# Altium schematic symbol library ICs_Control.SchLib: 37 symbols (part 1 of 6)
Pins are listed as number, name and electrical type; pins without a type are passive.

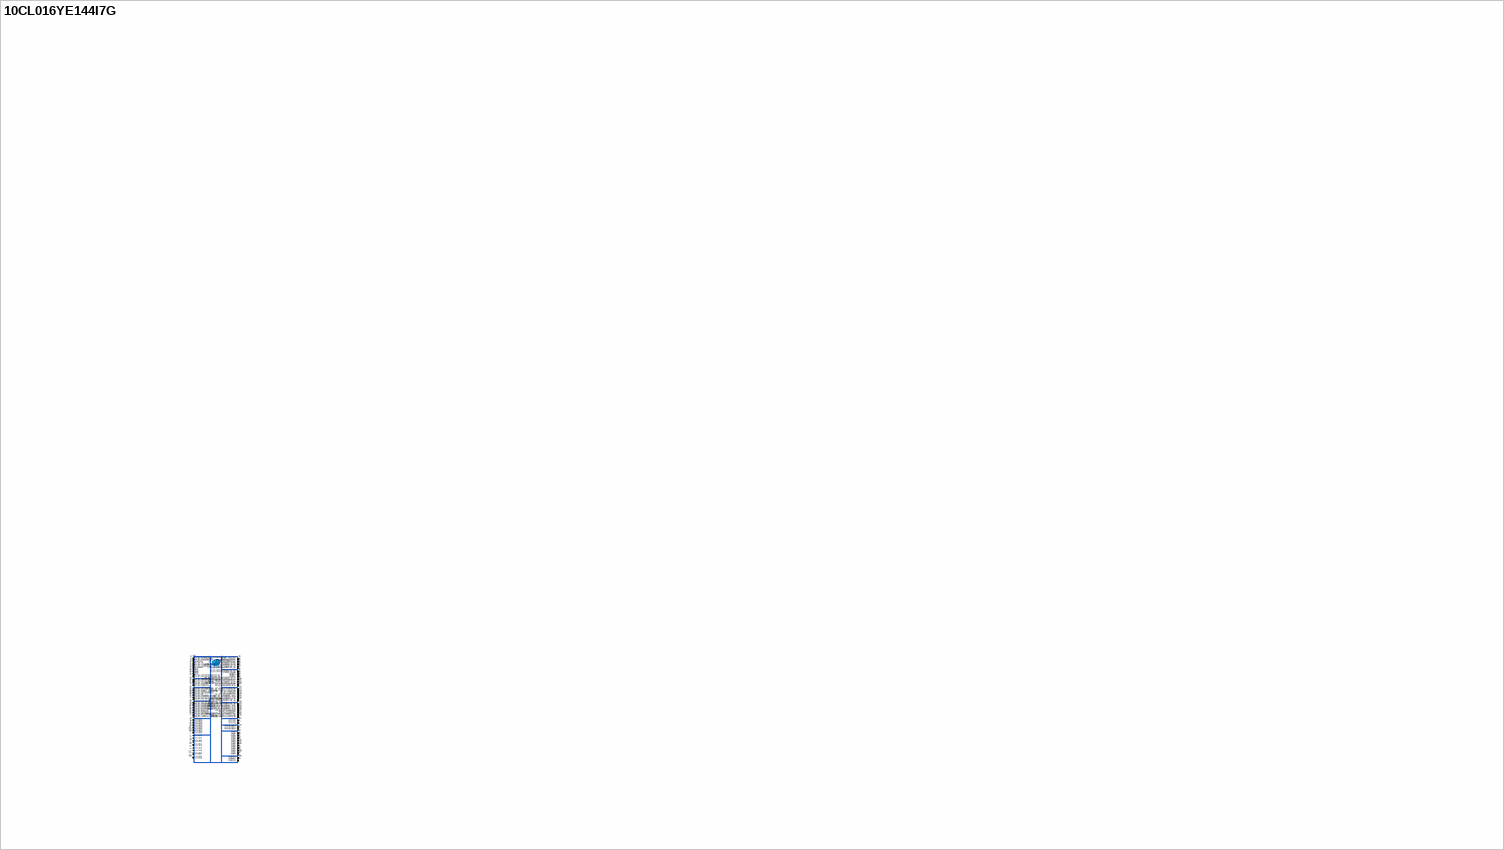
[diagram p0: symbol 10CL016YE144I7G]

## 10CL016YE144I7G
designator DD?
Cyclone 10 LP FPGA, 15408 LEs, 88 I/O (22 Diff. Pairs); Manufacturer: Intel/Altera; ItemType: IC; Alternative1: 10CL016YE144C8G; PartNumber: 10CL016YE144I7G; Package: LQFP144; ItemSubType: FPGA; Mounting: SMD; AltManufacturer1: Intel/Altera
footprint LQFP144_10CL016 (LQFP-144, 144-Leads, Body 20.00x20.00mm, Pitch 0.50mm, Thermal Pad 6.7x6.7mm)
pins: 1 VCCD_PLL3 (power), 2 GNDA3, 3 VCCA3 (power), 4 GND, 5 VCCINT (power), 6 B1_IO_6/DATA1/ASDO/DIFFIO_L4n (io), 7 B1_IO_7/VREFB1N0 (io), 8 B1_IO_8/FLASH_nCE/nCSO/DIFFIO_L6p (io), 9 nSTATUS (out), 10 B1_IO_10 (io), 11 B1_IO_11/VREFB1N1 (io), 12 B1_IO_12/DCLK (io), 13 B1_IO_13/DATA0 (io), 14 nCONFIG (in), 15 TDI (in), 16 TCK (in), 17 VCCIO1 (power), 18 TMS (in), 19 GND, 20 TDO (out), 21 nCE (in), 22 B1_IO_22/CLK0/DIFFCLK_0p (io), 23 B1_IO_23/CLK1/DIFFCLK_0n (io), 24 B2_IO_24/CLK2/DIFFCLK_1p (io), 25 B2_IO_25/CLK3/DIFFCLK_1n (io), 26 VCCIO2 (power), 27 GND, 28 B2_IO_28/VREFB2N0 (io), 29 VCCINT (power), 30 GND, 31 B2_IO_31/VREFB2N1 (io), 32 B2_IO_32/RUP1 (io), 33 B2_IO_33/RDN1 (io), 34 VCCINT (power), 35 VCCA1 (power), 36 GNDA1, 37 VCCD_PLL1 (power), 38 VCCINT (power), 39 B3_IO_39/VREFB3N1 (io), 40 VCCIO3 (power), 41 GND, 42 B3_IO_42/CDPCLK2 (io), 43 B3_IO_43/PLL1_CLKOUTp (io), 44 B3_IO_44/PLL1_CLKOUTn (io), 45 VCCINT (power), 46 B3_IO_46/VREFB3N0 (io), 47 VCCIO3 (power), 48 GND, 49 B3_IO_49 (io), 50 B3_IO_50/DIFFIO_B18p (io), 51 B3_IO_51/DIFFIO_B18n (io), 52 B3_IO_52/CLK15/DIFFCLK_6p (io), 53 B3_IO_53/CLK14/DIFFCLK_6n (io), 54 B4_IO_54/CLK13/DIFFCLK_7p (io), 55 B4_IO_55/CLK12/DIFFCLK_7n (io), 56 VCCIO4 (power), 57 GND, 58 B4_IO_58/DIFFIO_B21p (io), 59 B4_IO_59/DIFFIO_B22p (io), 60 B4_IO_60/DIFFIO_B22n (io), 61 B4_IO_61/DIFFIO_B23p (io), 62 VCCIO4 (power), 63 GND, 64 GND, 65 B4_IO_65/VREFB4N1 (io), 66 B4_IO_66/RUP2 (io), 67 B4_IO_67/RDN2 (io), 68 B4_IO_68/DIFFIO_B29n (io), 69 B4_IO_69/VREFB4N0 (io), 70 VCCINT (power), 71 B4_IO_71/PLL4_CLKOUTp (io), 72 B4_IO_72/PLL4_CLKOUTn (io), 73 VCCD_PLL4 (power), 74 GNDA4, 75 VCCA4 (power), 76 B5_IO_76/RUP3 (io), 77 B5_IO_77/RDN3 (io), 78 VCCINT (power), 79 GND, 80 B5_IO_80/VREFB5N1 (io), 81 VCCIO5 (power), 82 GND, 83 B5_IO_83/VREFB5N0 (io), 84 VCCINT (power), 85 B5_IO_85/DIFFIO_R22p (io), 86 B5_IO_86/DEV_OE/DIFFIO_R21n (io), 87 B5_IO_87/DEV_CLRn/DIFFIO_R21p (io), 88 B5_IO_88/CLK7/DIFFCLK_3n (io), 89 B5_IO_89/CLK6/DIFFCLK_3p (io), 90 B6_IO_90/CLK5/DIFFCLK_2n (io), 91 B6_IO_91/CLK4/DIFFCLK_2p (io), 92 CONF_DONE (out), 93 VCCIO6 (power), 94 MSEL0 (in), 95 GND, 96 MSEL1 (in), 97 MSEL2 (in), 98 B6_IO_98/INIT_DONE/DIFFIO_R17n (io), 99 B6_IO_99/CRC_ERROR/DIFFIO_R17p (io), 100 B6_IO_100/VREFB6N1 (io), 101 B6_IO_101/nCEO/DIFFIO_R16n (io), 102 VCCINT (power), 103 B6_IO_103/CLKUSR/DIFFIO_R16p (io), 104 GND, 105 B6_IO_105/VREFB6N0 (io), 106 B6_IO_106/DIFFIO_R2n (io), 107 VCCA2 (power), 108 GNDA2, 109 VCCD_PLL2 (power), 110 GND, 111 B7_IO_111/VREFB7N0 (io), 112 B7_IO_112/PLL2_CLKOUTn (io), 113 B7_IO_113/PLL2_CLKOUTp (io), 114 B7_IO_114/RUP4 (io), 115 B7_IO_115/RDN4 (io), 116 VCCINT (power), 117 VCCIO7 (power), 118 GND, 119 B7_IO_119/VREFB7N1 (io), 120 B7_IO_120/DIFFIO_T23n (io), 121 B7_IO_121/DIFFIO_T21p (io), 122 VCCIO7 (power), 123 GND, 124 VCCINT (power), 125 B7_IO_125/DIFFIO_T17p (io), 126 B7_IO_126/CLK8/DIFFCLK_5n (io), 127 B7_IO_127/CLK9/DIFFCLK_5p (io), 128 B8_IO_128/CLK10/DIFFCLK_4n (io), 129 B8_IO_129/CLK11/DIFFCLK_4p (io), 130 VCCIO8 (power), 131 GND, 132 B8_IO_132/DATA2/DIFFIO_T12n (io), 133 B8_IO_133/DATA3/DIFFIO_T12p (io), 134 B8_IO_134/DIFFIO_T11n (io), 135 B8_IO_135/DATA4/DIFFIO_T11p (io), 136 B8_IO_136/VREFB8N0 (io), 137 B8_IO_137/DATA5 (io), 138 VCCINT (power), 139 VCCIO8 (power), 140 GND, 141 B8_IO_141/VREFB8N1 (io), 142 B8_IO_142/CDPCLK7/DIFFIO_T2p (io), 143 B8_IO_143/PLL3_CLKOUTn (io), 144 B8_IO_144/PLL3_CLKOUTp (io), EP GND
text: BANK1; BANK5; CYCLONE 10 LP; BANK6; BANK2; BANK3; BANK7; BANK4; BANK8

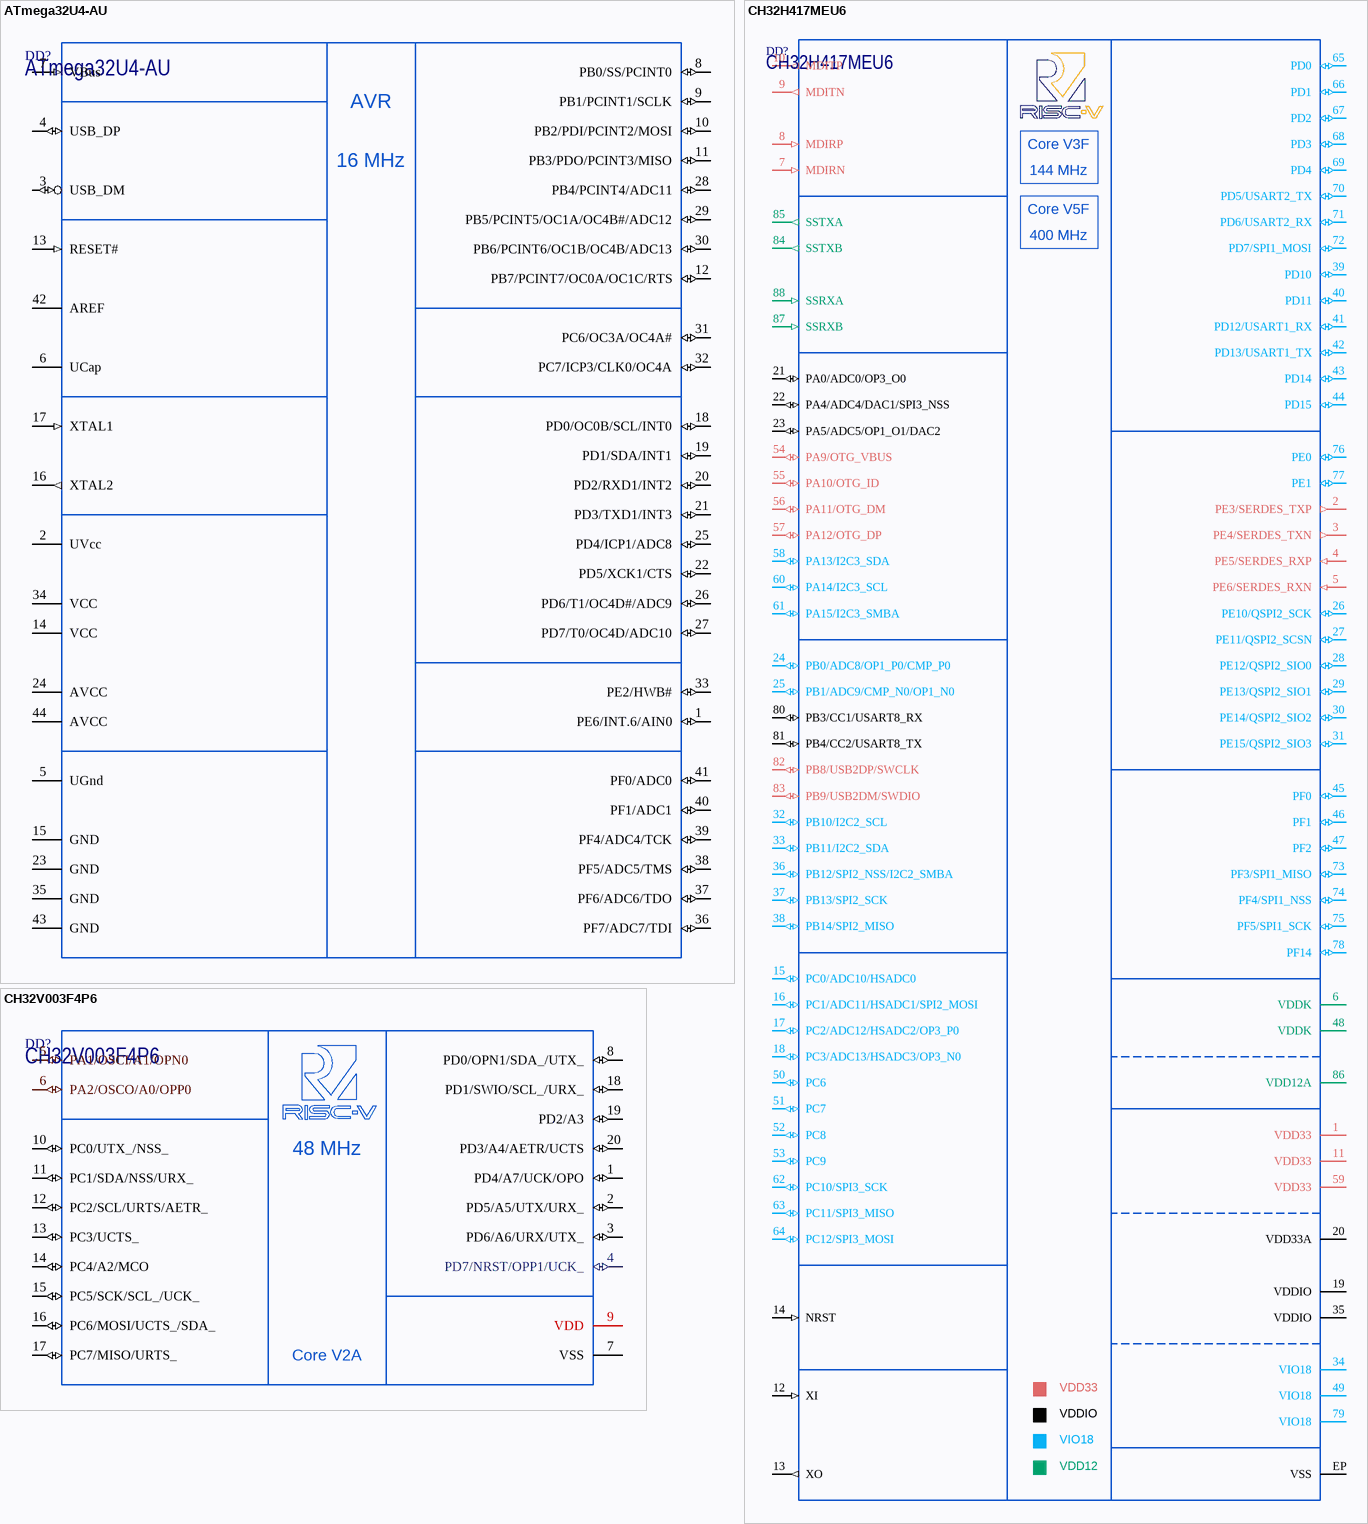
[diagram p1: symbols ATmega32U4-AU to CH32V003F4P6]

## ATmega32U4-AU
designator DD?
8-bit Microcontroller with 16/32K bytes of ISP Flash and USB Controller; Manufacturer: MicroChip; ItemType: IC; ItemSubType: MCU; Package: TQFP-44; PartNumber: ATmega32U4-AU; Mounting: SMD
footprint TQFP44_MEGA32U4 (Atmel TQFP44 package with 0.8mm pitch)
pins: 1 PE6/INT.6/AIN0 (io), 2 UVcc (power), 3 USB_DM (io), 4 USB_DP (io), 5 UGnd, 6 UCap, 7 VBus (in), 8 PB0/SS/PCINT0 (io), 9 PB1/PCINT1/SCLK (io), 10 PB2/PDI/PCINT2/MOSI (io), 11 PB3/PDO/PCINT3/MISO (io), 12 PB7/PCINT7/OC0A/OC1C/RTS (io), 13 RESET# (in), 14 VCC (power), 15 GND, 16 XTAL2 (out), 17 XTAL1 (in), 18 PD0/OC0B/SCL/INT0 (io), 19 PD1/SDA/INT1 (io), 20 PD2/RXD1/INT2 (io), 21 PD3/TXD1/INT3 (io), 22 PD5/XCK1/CTS (io), 23 GND, 24 AVCC (power), 25 PD4/ICP1/ADC8 (io), 26 PD6/T1/OC4D#/ADC9 (io), 27 PD7/T0/OC4D/ADC10 (io), 28 PB4/PCINT4/ADC11 (io), 29 PB5/PCINT5/OC1A/OC4B#/ADC12 (io), 30 PB6/PCINT6/OC1B/OC4B/ADC13 (io), 31 PC6/OC3A/OC4A# (io), 32 PC7/ICP3/CLK0/OC4A (io), 33 PE2/HWB# (io), 34 VCC (power), 35 GND, 36 PF7/ADC7/TDI (io), 37 PF6/ADC6/TDO (io), 38 PF5/ADC5/TMS (io), 39 PF4/ADC4/TCK (io), 40 PF1/ADC1 (io), 41 PF0/ADC0 (io), 42 AREF, 43 GND, 44 AVCC (power)
text: AVR; 16 MHz

## CH32H417MEU6
designator DD?
RISC-V Dual Core MCU 400/144MHz with 960KB flash, 896KB RAM; Manufacturer: WinChipHead; ItemType: IC; Package: QFN-88; PartNumber: CH32H417MEU6; ItemSubType: MCU; Mounting: SMD
footprint QFN88_WCH (QFN88, 10x10mm with 0.4mm pitch)
pins: 1 VDD33 (power), 2 PE3/SERDES_TXP (out), 3 PE4/SERDES_TXN (out), 4 PE5/SERDES_RXP (in), 5 PE6/SERDES_RXN (in), 6 VDDK (power), 7 MDIRN (in), 8 MDIRP (in), 9 MDITN (out), 10 MDITP (out), 11 VDD33 (power), 12 XI (in), 13 XO (out), 14 NRST (in), 15 PC0/ADC10/HSADC0 (io), 16 PC1/ADC11/HSADC1/SPI2_MOSI (io), 17 PC2/ADC12/HSADC2/OP3_P0 (io), 18 PC3/ADC13/HSADC3/OP3_N0 (io), 19 VDDIO (power), 20 VDD33A (power), 21 PA0/ADC0/OP3_O0 (io), 22 PA4/ADC4/DAC1/SPI3_NSS (io), 23 PA5/ADC5/OP1_O1/DAC2 (io), 24 PB0/ADC8/OP1_P0/CMP_P0 (io), 25 PB1/ADC9/CMP_N0/OP1_N0 (io), 26 PE10/QSPI2_SCK (io), 27 PE11/QSPI2_SCSN (io), 28 PE12/QSPI2_SIO0 (io), 29 PE13/QSPI2_SIO1 (io), 30 PE14/QSPI2_SIO2 (io), 31 PE15/QSPI2_SIO3 (io), 32 PB10/I2C2_SCL (io), 33 PB11/I2C2_SDA (io), 34 VIO18 (power), 35 VDDIO (power), 36 PB12/SPI2_NSS/I2C2_SMBA (io), 37 PB13/SPI2_SCK (io), 38 PB14/SPI2_MISO (io), 39 PD10 (io), 40 PD11 (io), 41 PD12/USART1_RX (io), 42 PD13/USART1_TX (io), 43 PD14 (io), 44 PD15 (io), 45 PF0 (io), 46 PF1 (io), 47 PF2 (io), 48 VDDK (power), 49 VIO18 (power), 50 PC6 (io), 51 PC7 (io), 52 PC8 (io), 53 PC9 (io), 54 PA9/OTG_VBUS (io), 55 PA10/OTG_ID (io), 56 PA11/OTG_DM (io), 57 PA12/OTG_DP (io), 58 PA13/I2C3_SDA (io), 59 VDD33 (power), 60 PA14/I2C3_SCL (io), 61 PA15/I2C3_SMBA (io), 62 PC10/SPI3_SCK (io), 63 PC11/SPI3_MISO (io), 64 PC12/SPI3_MOSI (io), 65 PD0 (io), 66 PD1 (io), 67 PD2 (io), 68 PD3 (io), 69 PD4 (io), 70 PD5/USART2_TX (io), 71 PD6/USART2_RX (io), 72 PD7/SPI1_MOSI (io), 73 PF3/SPI1_MISO (io), 74 PF4/SPI1_NSS (io), 75 PF5/SPI1_SCK (io), 76 PE0 (io), 77 PE1 (io), 78 PF14 (io), 79 VIO18 (power), 80 PB3/CC1/USART8_RX (io), 81 PB4/CC2/USART8_TX (io), 82 PB8/USB2DP/SWCLK (io), 83 PB9/USB2DM/SWDIO (io), 84 SSTXB (out), 85 SSTXA (out), 86 VDD12A (power), 87 SSRXB (in), 88 SSRXA (in), EP VSS
text: Core V3F; 144 MHz; Core V5F; 400 MHz; VDD12

## CH32V003F4P6
designator DD?
RISC-V MCU 48MHz with 16KB flash, 2KB RAM; Manufacturer: WinChipHead; ItemType: IC; Package: TSSOP-20; Marking: CH32V003; PartNumber: CH32V003F4P6; ItemtSubType: MCU; Mounting: SMD
footprint TSSOP20_WCH (TSSOP, 20-Leads, Body 6.50x4.40mm, Pitch 0.65mm)
pins: 1 PD4/A7/UCK/OPO (io), 2 PD5/A5/UTX/URX_ (io), 3 PD6/A6/URX/UTX_ (io), 4 PD7/NRST/OPP1/UCK_ (io), 5 PA1/OSCI/A1/OPN0 (io), 6 PA2/OSCO/A0/OPP0 (io), 7 VSS, 8 PD0/OPN1/SDA_/UTX_ (io), 9 VDD (power), 10 PC0/UTX_/NSS_ (io), 11 PC1/SDA/NSS/URX_ (io), 12 PC2/SCL/URTS/AETR_ (io), 13 PC3/UCTS_ (io), 14 PC4/A2/MCO (io), 15 PC5/SCK/SCL_/UCK_ (io), 16 PC6/MOSI/UCTS_/SDA_ (io), 17 PC7/MISO/URTS_ (io), 18 PD1/SWIO/SCL_/URX_ (io), 19 PD2/A3 (io), 20 PD3/A4/AETR/UCTS (io)
text: 48 MHz; Core V2A

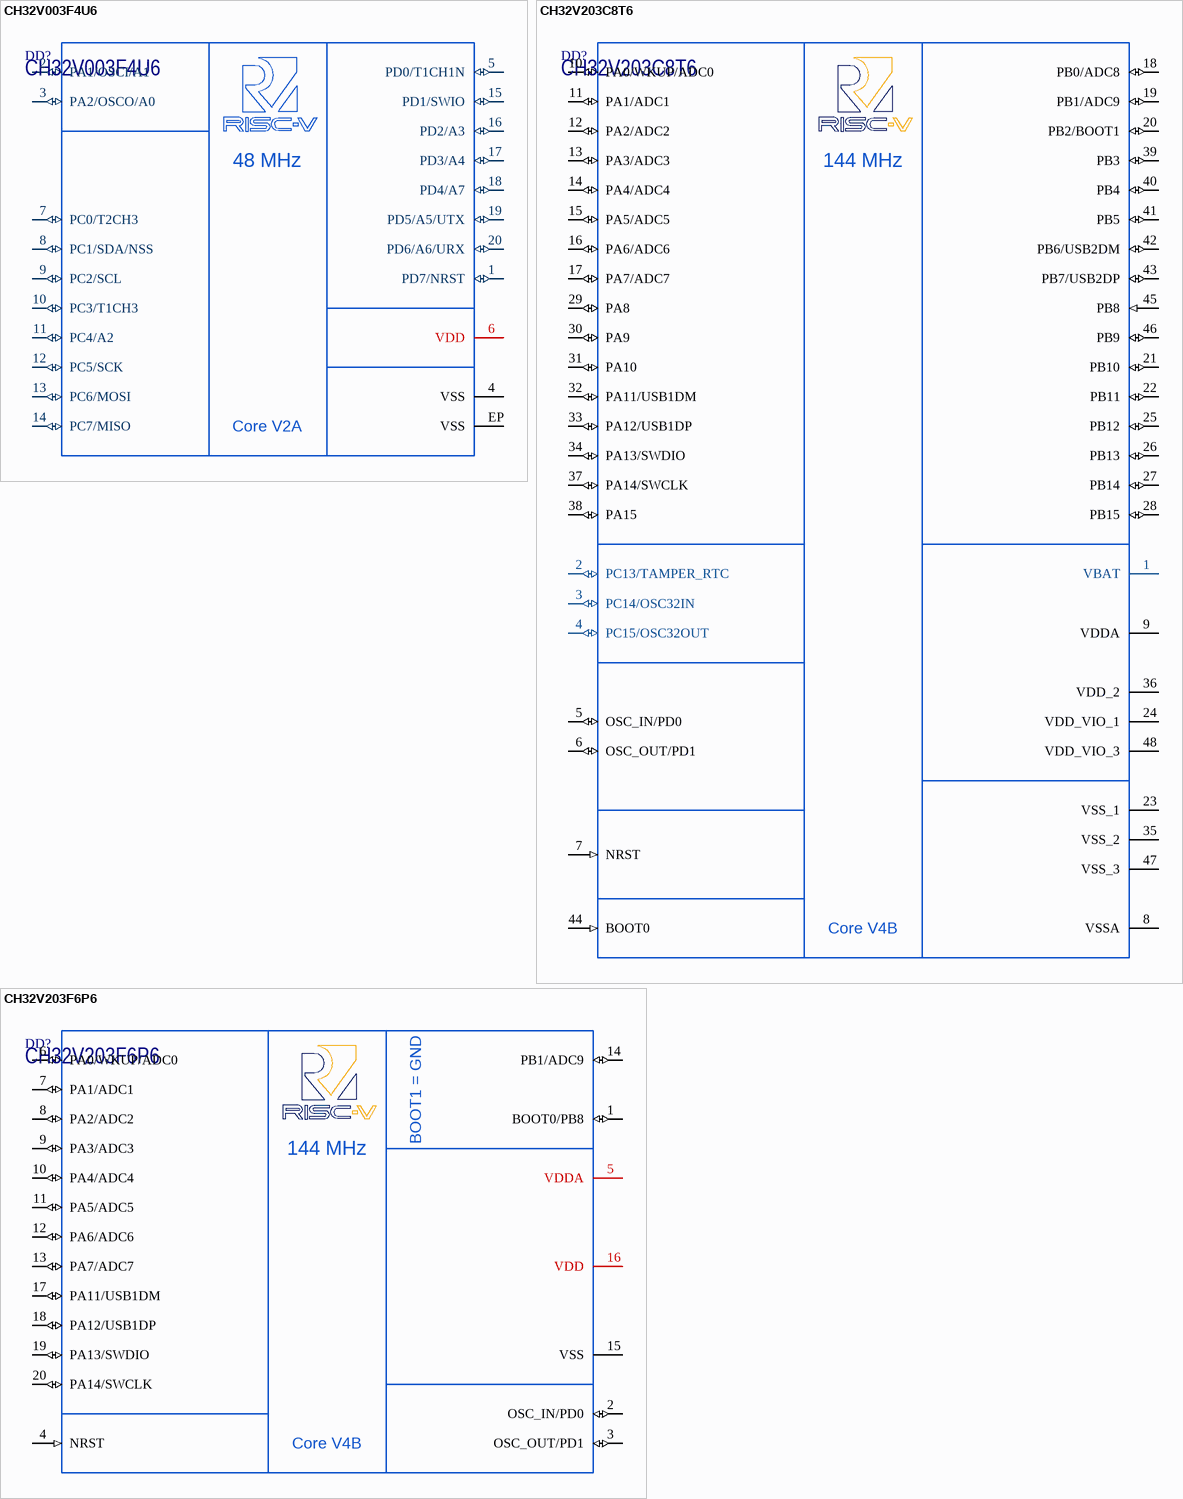
[diagram p2: symbols CH32V003F4U6 to CH32V203F6P6]

## CH32V003F4U6
designator DD?
RISC-V MCU 48MHz with 16KB flash, 2KB RAM; Manufacturer: WinChipHead; Marking: V003F4; ItemType: IC; Package: QFN-20; PartNumber: CH32V003F4U6; ItemtSubType: MCU; Mounting: SMD
footprint QFN20_WCH (QFN 3mm x 3mm, 0.4mm pitch)
pins: 1 PD7/NRST (io), 2 PA1/OSCI/A1 (io), 3 PA2/OSCO/A0 (io), 4 VSS, 5 PD0/T1CH1N (io), 6 VDD (power), 7 PC0/T2CH3 (io), 8 PC1/SDA/NSS (io), 9 PC2/SCL (io), 10 PC3/T1CH3 (io), 11 PC4/A2 (io), 12 PC5/SCK (io), 13 PC6/MOSI (io), 14 PC7/MISO (io), 15 PD1/SWIO (io), 16 PD2/A3 (io), 17 PD3/A4 (io), 18 PD4/A7 (io), 19 PD5/A5/UTX (io), 20 PD6/A6/URX (io), EP VSS
text: 48 MHz; Core V2A

## CH32V203C8T6
designator DD?
RISC-V MCU 144MHz with 64KB flash, 20KB RAM; Manufacturer: WinChipHead; ItemType: IC; Package: LQFP-48; Marking: CH32V203; PartNumber: CH32V203C8T6; ItemSubType: MCU; Mounting: SMD
footprint LQFP48_WCH (LQFP, 48-Leads, Body 7,00x7,00mm, Pitch 0,50mm)
pins: 1 VBAT (power), 2 PC13/TAMPER_RTC (io), 3 PC14/OSC32IN (io), 4 PC15/OSC32OUT (io), 5 OSC_IN/PD0 (io), 6 OSC_OUT/PD1 (io), 7 NRST (in), 8 VSSA, 9 VDDA (power), 10 PA0/WKUP/ADC0 (io), 11 PA1/ADC1 (io), 12 PA2/ADC2 (io), 13 PA3/ADC3 (io), 14 PA4/ADC4 (io), 15 PA5/ADC5 (io), 16 PA6/ADC6 (io), 17 PA7/ADC7 (io), 18 PB0/ADC8 (io), 19 PB1/ADC9 (io), 20 PB2/BOOT1 (io), 21 PB10 (io), 22 PB11 (io), 23 VSS_1, 24 VDD_VIO_1 (power), 25 PB12 (io), 26 PB13 (io), 27 PB14 (io), 28 PB15 (io), 29 PA8 (io), 30 PA9 (io), 31 PA10 (io), 32 PA11/USB1DM (io), 33 PA12/USB1DP (io), 34 PA13/SWDIO (io), 35 VSS_2, 36 VDD_2 (power), 37 PA14/SWCLK (io), 38 PA15 (io), 39 PB3 (io), 40 PB4 (io), 41 PB5 (io), 42 PB6/USB2DM (io), 43 PB7/USB2DP (io), 44 BOOT0 (in), 45 PB8 (in), 46 PB9 (io), 47 VSS_3, 48 VDD_VIO_3 (power)
text: 144 MHz; Core V4B

## CH32V203F6P6
designator DD?
RISC-V MCU 144MHz with 32KB flash, 10KB RAM; Manufacturer: WinChipHead; ItemType: IC; Package: TSSOP-20; Marking: CH32V203; PartNumber: CH32V203F6P6; ItemSubType: MCU; Mounting: SMD
footprint TSSOP20_WCH (TSSOP, 20-Leads, Body 6.50x4.40mm, Pitch 0.65mm)
pins: 1 BOOT0/PB8 (io), 2 OSC_IN/PD0 (io), 3 OSC_OUT/PD1 (io), 4 NRST (in), 5 VDDA (power), 6 PA0/WKUP/ADC0 (io), 7 PA1/ADC1 (io), 8 PA2/ADC2 (io), 9 PA3/ADC3 (io), 10 PA4/ADC4 (io), 11 PA5/ADC5 (io), 12 PA6/ADC6 (io), 13 PA7/ADC7 (io), 14 PB1/ADC9 (io), 15 VSS, 16 VDD (power), 17 PA11/USB1DM (io), 18 PA12/USB1DP (io), 19 PA13/SWDIO (io), 20 PA14/SWCLK (io)
text: BOOT1 = GND; 144 MHz; Core V4B

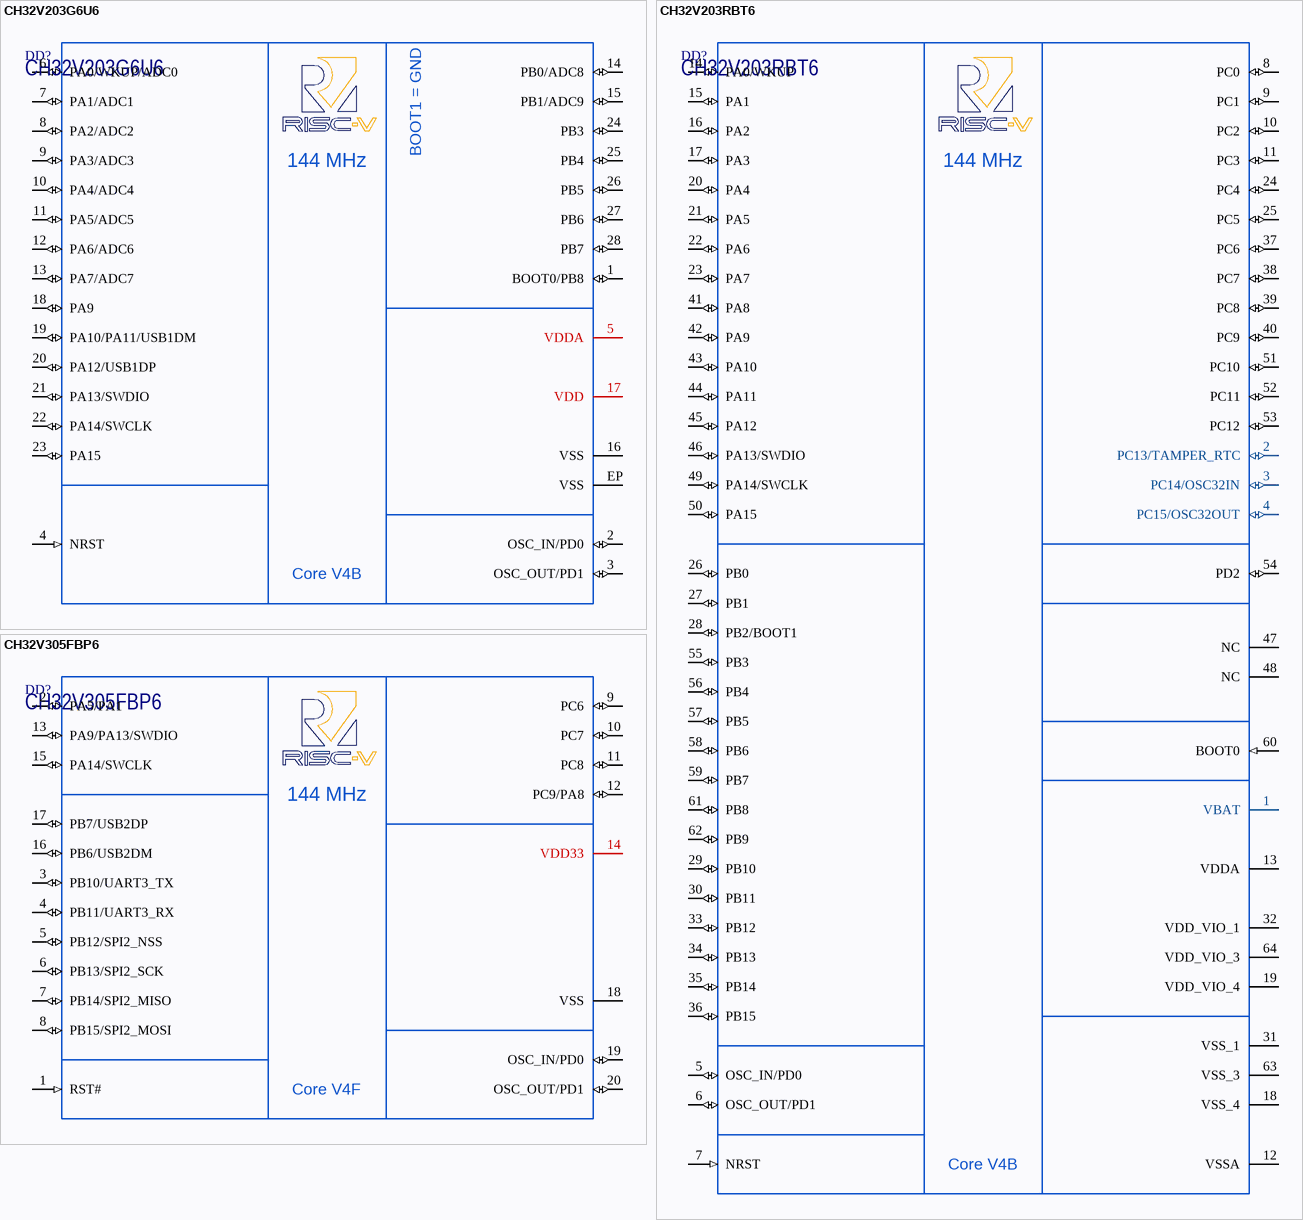
[diagram p3: symbols CH32V203G6U6 to CH32V305FBP6]

## CH32V203G6U6
designator DD?
RISC-V MCU 144MHz with 32KB flash, 10KB RAM; Manufacturer: WinChipHead; ItemType: IC; Package: QFN-28; Marking: CH32V203; PartNumber: CH32V203G6U6; ItemSubType: MCU; Mounting: SMD
footprint QFN28_WCH (QFN 4mm x 4mm, 0.4mm pitch)
pins: 1 BOOT0/PB8 (io), 2 OSC_IN/PD0 (io), 3 OSC_OUT/PD1 (io), 4 NRST (in), 5 VDDA (power), 6 PA0/WKUP/ADC0 (io), 7 PA1/ADC1 (io), 8 PA2/ADC2 (io), 9 PA3/ADC3 (io), 10 PA4/ADC4 (io), 11 PA5/ADC5 (io), 12 PA6/ADC6 (io), 13 PA7/ADC7 (io), 14 PB0/ADC8 (io), 15 PB1/ADC9 (io), 16 VSS, 17 VDD (power), 18 PA9 (io), 19 PA10/PA11/USB1DM (io), 20 PA12/USB1DP (io), 21 PA13/SWDIO (io), 22 PA14/SWCLK (io), 23 PA15 (io), 24 PB3 (io), 25 PB4 (io), 26 PB5 (io), 27 PB6 (io), 28 PB7 (io), EP VSS
text: BOOT1 = GND; 144 MHz; Core V4B

## CH32V203RBT6
designator DD?
RISC-V MCU 144MHz with 128KB flash, 64KB RAM; Manufacturer: WinChipHead; ItemType: IC; Package: LQFP-64; Marking: CH32V203; PartNumber: CH32V203RBT6; ItemSubType: MCU; Mounting: SMD
footprint LQFP64M_WCH (WCH LQFP64M package with 0.5mm pitch)
pins: 1 VBAT (power), 2 PC13/TAMPER_RTC (io), 3 PC14/OSC32IN (io), 4 PC15/OSC32OUT (io), 5 OSC_IN/PD0 (io), 6 OSC_OUT/PD1 (io), 7 NRST (in), 8 PC0 (io), 9 PC1 (io), 10 PC2 (io), 11 PC3 (io), 12 VSSA, 13 VDDA (power), 14 PA0/WKUP (io), 15 PA1 (io), 16 PA2 (io), 17 PA3 (io), 18 VSS_4, 19 VDD_VIO_4 (power), 20 PA4 (io), 21 PA5 (io), 22 PA6 (io), 23 PA7 (io), 24 PC4 (io), 25 PC5 (io), 26 PB0 (io), 27 PB1 (io), 28 PB2/BOOT1 (io), 29 PB10 (io), 30 PB11 (io), 31 VSS_1, 32 VDD_VIO_1 (power), 33 PB12 (io), 34 PB13 (io), 35 PB14 (io), 36 PB15 (io), 37 PC6 (io), 38 PC7 (io), 39 PC8 (io), 40 PC9 (io), 41 PA8 (io), 42 PA9 (io), 43 PA10 (io), 44 PA11 (io), 45 PA12 (io), 46 PA13/SWDIO (io), 47 NC (hiz), 48 NC (hiz), 49 PA14/SWCLK (io), 50 PA15 (io), 51 PC10 (io), 52 PC11 (io), 53 PC12 (io), 54 PD2 (io), 55 PB3 (io), 56 PB4 (io), 57 PB5 (io), 58 PB6 (io), 59 PB7 (io), 60 BOOT0 (in), 61 PB8 (io), 62 PB9 (io), 63 VSS_3, 64 VDD_VIO_3 (power)
text: 144 MHz; Core V4B

## CH32V305FBP6
designator DD?
RISC-V MCU 144MHz with 128KB flash, 32KB RAM; Manufacturer: WinChipHead; ItemType: IC; Package: TSSOP-20; Marking: CH32V305; PartNumber: CH32V305FBP6; ItemSubType: MCU; Mounting: SMD
footprint TSSOP20_WCH (TSSOP, 20-Leads, Body 6.50x4.40mm, Pitch 0.65mm)
pins: 1 RST# (in), 2 PA5/PA1 (io), 3 PB10/UART3_TX (io), 4 PB11/UART3_RX (io), 5 PB12/SPI2_NSS (io), 6 PB13/SPI2_SCK (io), 7 PB14/SPI2_MISO (io), 8 PB15/SPI2_MOSI (io), 9 PC6 (io), 10 PC7 (io), 11 PC8 (io), 12 PC9/PA8 (io), 13 PA9/PA13/SWDIO (io), 14 VDD33 (power), 15 PA14/SWCLK (io), 16 PB6/USB2DM (io), 17 PB7/USB2DP (io), 18 VSS, 19 OSC_IN/PD0 (io), 20 OSC_OUT/PD1 (io)
text: 144 MHz; Core V4F

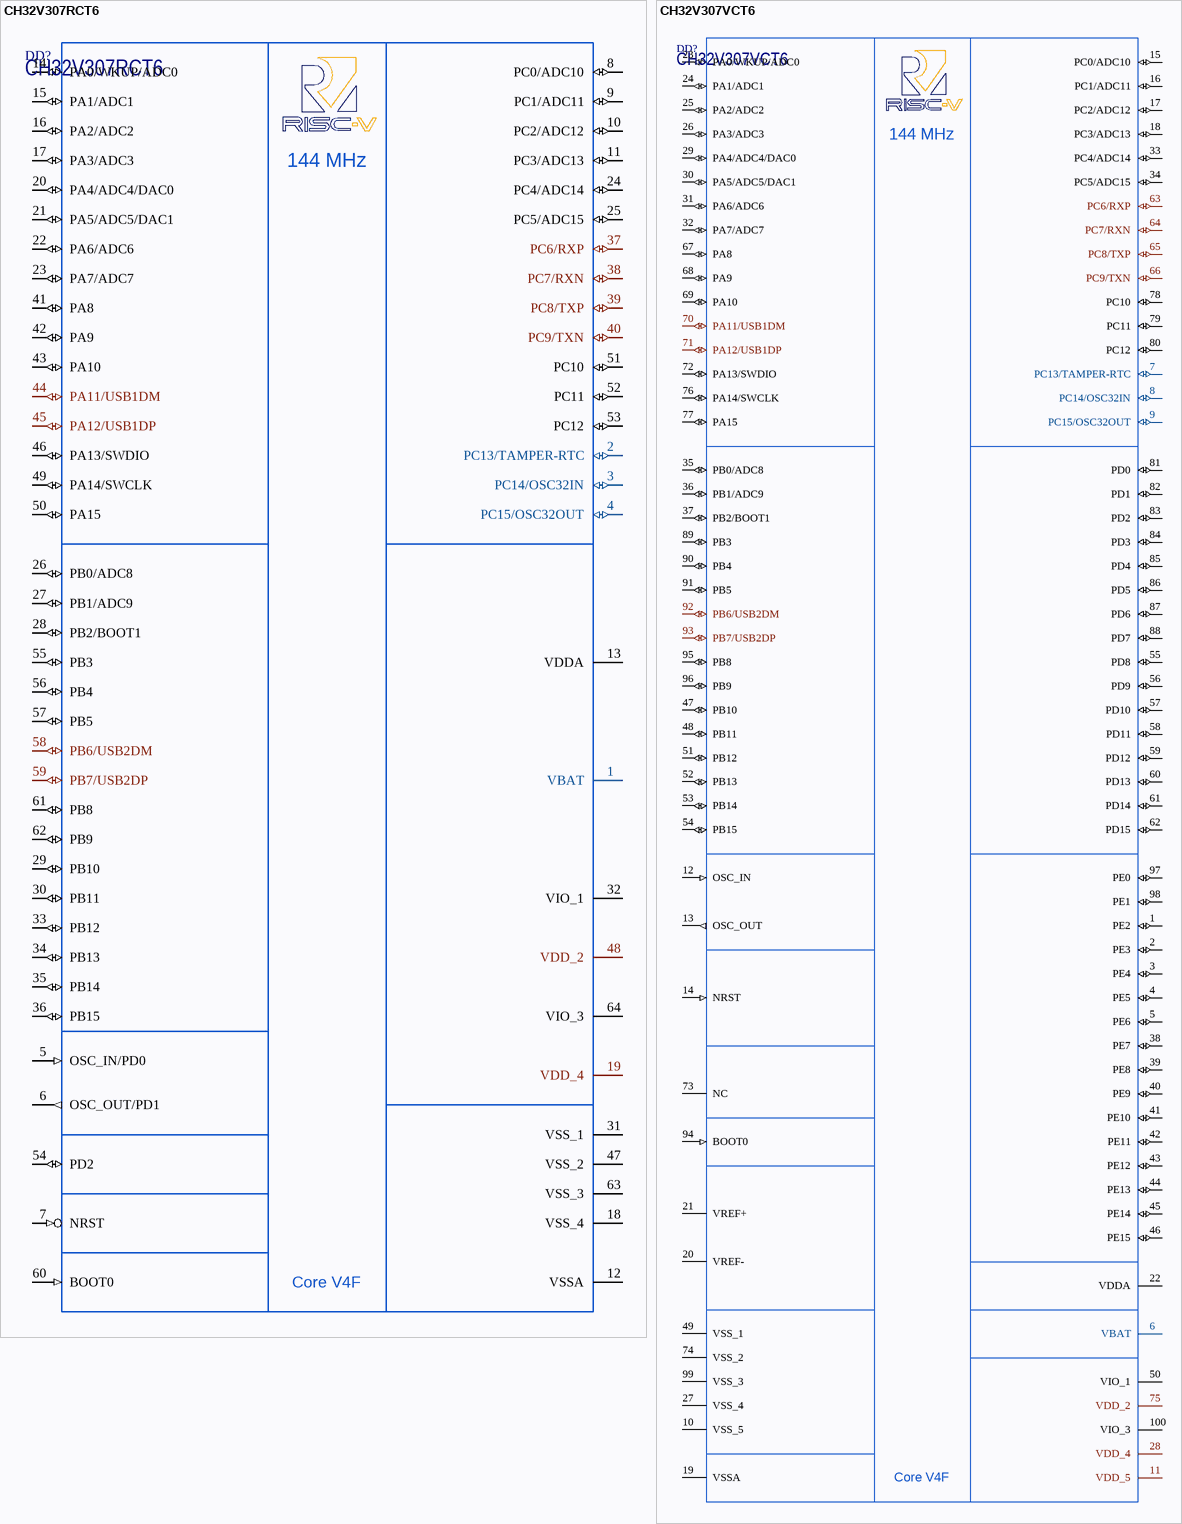
[diagram p4: symbols CH32V307RCT6 to CH32V307VCT6]

## CH32V307RCT6
designator DD?
RISC-V MCU 144MHz with 256KB flash, 64KB RAM; Manufacturer: WinChipHead; ItemType: IC; Package: LQFP-64; Marking: CH32V307; PartNumber: CH32V307RCT6; ItemSubType: MCU; Mounting: SMD
footprint LQFP64M_WCH (WCH LQFP64M package with 0.5mm pitch)
pins: 1 VBAT (power), 2 PC13/TAMPER-RTC (io), 3 PC14/OSC32IN (io), 4 PC15/OSC32OUT (io), 5 OSC_IN/PD0 (in), 6 OSC_OUT/PD1 (out), 7 NRST (in), 8 PC0/ADC10 (io), 9 PC1/ADC11 (io), 10 PC2/ADC12 (io), 11 PC3/ADC13 (io), 12 VSSA, 13 VDDA (power), 14 PA0/WKUP/ADC0 (io), 15 PA1/ADC1 (io), 16 PA2/ADC2 (io), 17 PA3/ADC3 (io), 18 VSS_4, 19 VDD_4 (power), 20 PA4/ADC4/DAC0 (io), 21 PA5/ADC5/DAC1 (io), 22 PA6/ADC6 (io), 23 PA7/ADC7 (io), 24 PC4/ADC14 (io), 25 PC5/ADC15 (io), 26 PB0/ADC8 (io), 27 PB1/ADC9 (io), 28 PB2/BOOT1 (io), 29 PB10 (io), 30 PB11 (io), 31 VSS_1, 32 VIO_1 (power), 33 PB12 (io), 34 PB13 (io), 35 PB14 (io), 36 PB15 (io), 37 PC6/RXP (io), 38 PC7/RXN (io), 39 PC8/TXP (io), 40 PC9/TXN (io), 41 PA8 (io), 42 PA9 (io), 43 PA10 (io), 44 PA11/USB1DM (io), 45 PA12/USB1DP (io), 46 PA13/SWDIO (io), 47 VSS_2, 48 VDD_2 (power), 49 PA14/SWCLK (io), 50 PA15 (io), 51 PC10 (io), 52 PC11 (io), 53 PC12 (io), 54 PD2 (io), 55 PB3 (io), 56 PB4 (io), 57 PB5 (io), 58 PB6/USB2DM (io), 59 PB7/USB2DP (io), 60 BOOT0 (in), 61 PB8 (io), 62 PB9 (io), 63 VSS_3, 64 VIO_3 (power)
text: 144 MHz; Core V4F

## CH32V307VCT6
designator DD?
RISC-V MCU 144MHz with 256KB flash, 64KB RAM; Manufacturer: WinChipHead; ItemType: IC; Package: LQFP-100; Marking: CH32V307; PartNumber: CH32V307VCT6; ItemSubType: MCU; Mounting: SMD
footprint LQFP100_WCH (WCH LQFP100 package with 0.5mm pitch)
pins: 1 PE2 (io), 2 PE3 (io), 3 PE4 (io), 4 PE5 (io), 5 PE6 (io), 6 VBAT (power), 7 PC13/TAMPER-RTC (io), 8 PC14/OSC32IN (io), 9 PC15/OSC32OUT (io), 10 VSS_5, 11 VDD_5 (power), 12 OSC_IN (in), 13 OSC_OUT (out), 14 NRST (in), 15 PC0/ADC10 (io), 16 PC1/ADC11 (io), 17 PC2/ADC12 (io), 18 PC3/ADC13 (io), 19 VSSA, 20 VREF-, 21 VREF+, 22 VDDA (power), 23 PA0/WKUP/ADC0 (io), 24 PA1/ADC1 (io), 25 PA2/ADC2 (io), 26 PA3/ADC3 (io), 27 VSS_4, 28 VDD_4 (power), 29 PA4/ADC4/DAC0 (io), 30 PA5/ADC5/DAC1 (io), 31 PA6/ADC6 (io), 32 PA7/ADC7 (io), 33 PC4/ADC14 (io), 34 PC5/ADC15 (io), 35 PB0/ADC8 (io), 36 PB1/ADC9 (io), 37 PB2/BOOT1 (io), 38 PE7 (io), 39 PE8 (io), 40 PE9 (io), 41 PE10 (io), 42 PE11 (io), 43 PE12 (io), 44 PE13 (io), 45 PE14 (io), 46 PE15 (io), 47 PB10 (io), 48 PB11 (io), 49 VSS_1, 50 VIO_1 (power), 51 PB12 (io), 52 PB13 (io), 53 PB14 (io), 54 PB15 (io), 55 PD8 (io), 56 PD9 (io), 57 PD10 (io), 58 PD11 (io), 59 PD12 (io), 60 PD13 (io), 61 PD14 (io), 62 PD15 (io), 63 PC6/RXP (io), 64 PC7/RXN (io), 65 PC8/TXP (io), 66 PC9/TXN (io), 67 PA8 (io), 68 PA9 (io), 69 PA10 (io), 70 PA11/USB1DM (io), 71 PA12/USB1DP (io), 72 PA13/SWDIO (io), 73 NC (hiz), 74 VSS_2, 75 VDD_2 (power), 76 PA14/SWCLK (io), 77 PA15 (io), 78 PC10 (io), 79 PC11 (io), 80 PC12 (io), 81 PD0 (io), 82 PD1 (io), 83 PD2 (io), 84 PD3 (io), 85 PD4 (io), 86 PD5 (io), 87 PD6 (io), 88 PD7 (io), 89 PB3 (io), 90 PB4 (io), 91 PB5 (io), 92 PB6/USB2DM (io), 93 PB7/USB2DP (io), 94 BOOT0 (in), 95 PB8 (io), 96 PB9 (io), 97 PE0 (io), 98 PE1 (io), 99 VSS_3, 100 VIO_3 (power)
text: 144 MHz; Core V4F

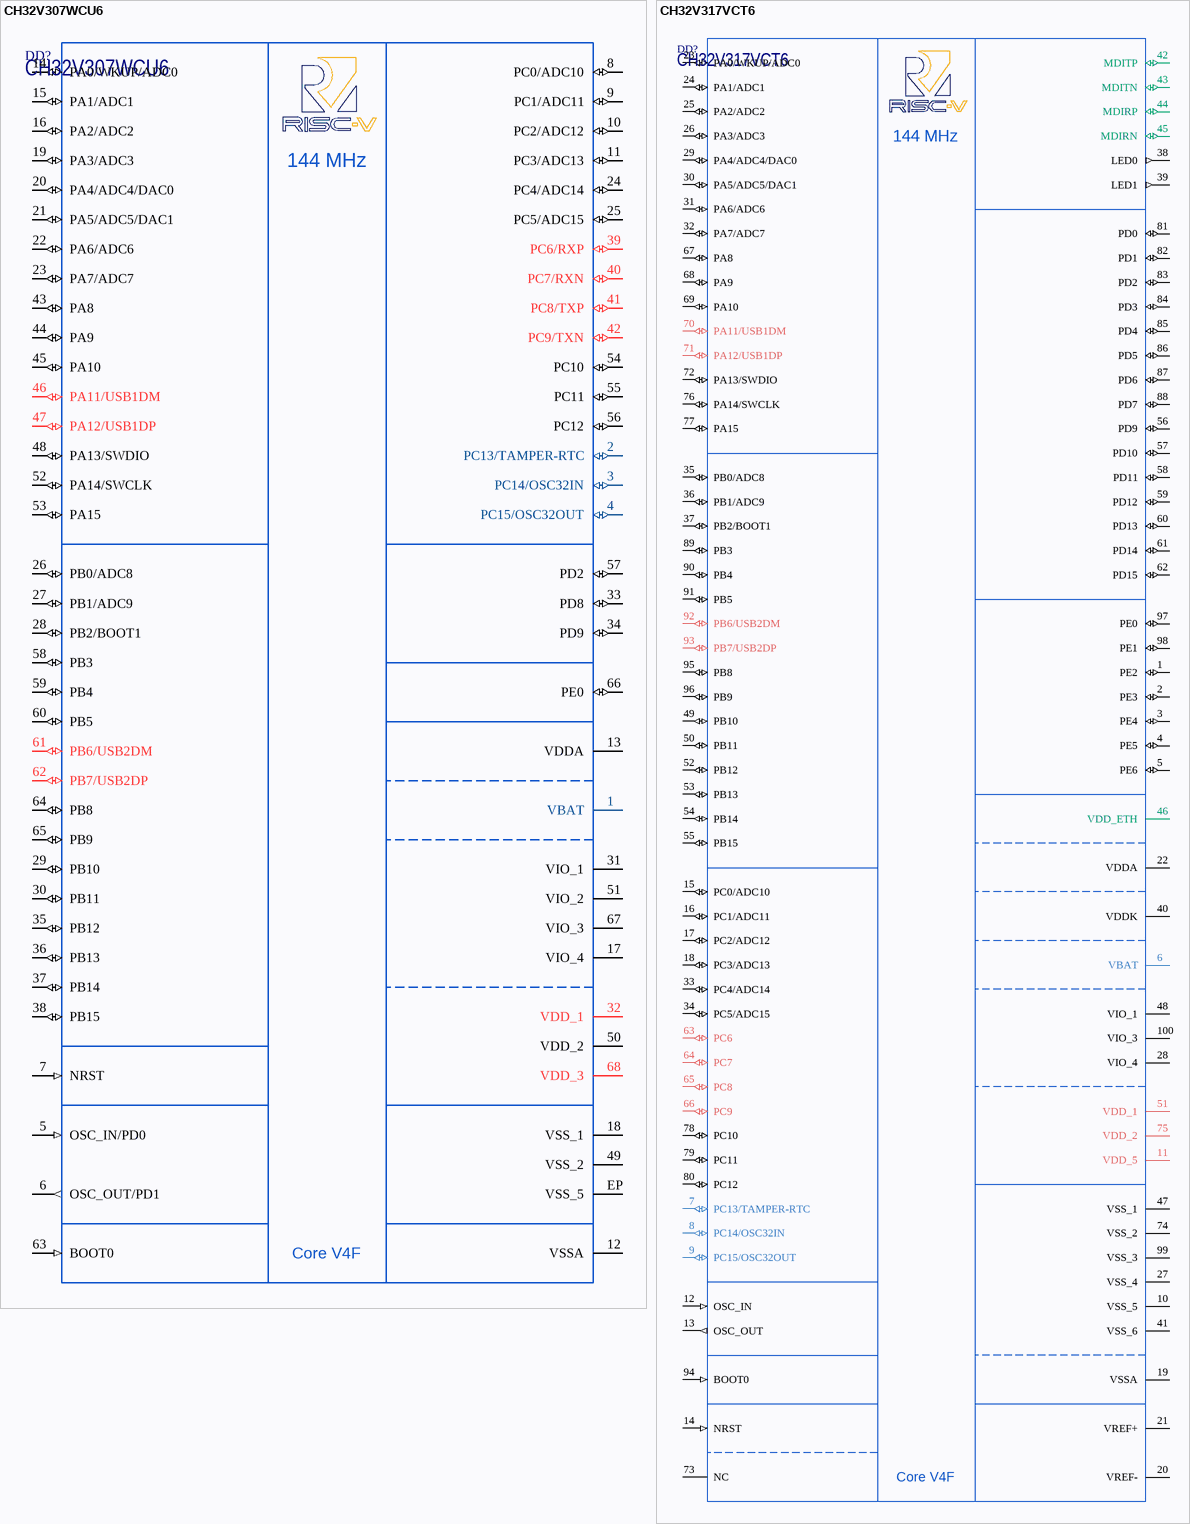
[diagram p5: symbols CH32V307WCU6 to CH32V317VCT6]

## CH32V307WCU6
designator DD?
RISC-V MCU 144MHz with 256KB flash, 64KB RAM; Manufacturer: WinChipHead; ItemType: IC; Package: QFN-68; Marking: CH32V307; PartNumber: CH32V307WCU6; ItemSubType: MCU; Mounting: SMD
footprint QFN68_WCH (QFN68, 8x8mm with 0.4mm pitch)
pins: 1 VBAT (power), 2 PC13/TAMPER-RTC (io), 3 PC14/OSC32IN (io), 4 PC15/OSC32OUT (io), 5 OSC_IN/PD0 (in), 6 OSC_OUT/PD1 (out), 7 NRST (in), 8 PC0/ADC10 (io), 9 PC1/ADC11 (io), 10 PC2/ADC12 (io), 11 PC3/ADC13 (io), 12 VSSA, 13 VDDA (power), 14 PA0/WKUP/ADC0 (io), 15 PA1/ADC1 (io), 16 PA2/ADC2 (io), 17 VIO_4 (power), 18 VSS_1, 19 PA3/ADC3 (io), 20 PA4/ADC4/DAC0 (io), 21 PA5/ADC5/DAC1 (io), 22 PA6/ADC6 (io), 23 PA7/ADC7 (io), 24 PC4/ADC14 (io), 25 PC5/ADC15 (io), 26 PB0/ADC8 (io), 27 PB1/ADC9 (io), 28 PB2/BOOT1 (io), 29 PB10 (io), 30 PB11 (io), 31 VIO_1 (power), 32 VDD_1 (power), 33 PD8 (io), 34 PD9 (io), 35 PB12 (io), 36 PB13 (io), 37 PB14 (io), 38 PB15 (io), 39 PC6/RXP (io), 40 PC7/RXN (io), 41 PC8/TXP (io), 42 PC9/TXN (io), 43 PA8 (io), 44 PA9 (io), 45 PA10 (io), 46 PA11/USB1DM (io), 47 PA12/USB1DP (io), 48 PA13/SWDIO (io), 49 VSS_2, 50 VDD_2 (power), 51 VIO_2 (power), 52 PA14/SWCLK (io), 53 PA15 (io), 54 PC10 (io), 55 PC11 (io), 56 PC12 (io), 57 PD2 (io), 58 PB3 (io), 59 PB4 (io), 60 PB5 (io), 61 PB6/USB2DM (io), 62 PB7/USB2DP (io), 63 BOOT0 (in), 64 PB8 (io), 65 PB9 (io), 66 PE0 (io), 67 VIO_3 (power), 68 VDD_3 (power), EP VSS_5
text: 144 MHz; Core V4F

## CH32V317VCT6
designator DD?
RISC-V MCU 144MHz with 256KB flash, 64KB RAM; Manufacturer: WinChipHead; ItemType: IC; Package: LQFP-100; Marking: CH32V317; PartNumber: CH32V317VCT6; ItemSubType: MCU; Mounting: SMD
footprint LQFP100_WCH (WCH LQFP100 package with 0.5mm pitch)
pins: 1 PE2 (io), 2 PE3 (io), 3 PE4 (io), 4 PE5 (io), 5 PE6 (io), 6 VBAT (power), 7 PC13/TAMPER-RTC (io), 8 PC14/OSC32IN (io), 9 PC15/OSC32OUT (io), 10 VSS_5, 11 VDD_5 (power), 12 OSC_IN (in), 13 OSC_OUT (out), 14 NRST (in), 15 PC0/ADC10 (io), 16 PC1/ADC11 (io), 17 PC2/ADC12 (io), 18 PC3/ADC13 (io), 19 VSSA, 20 VREF-, 21 VREF+, 22 VDDA (power), 23 PA0/WKUP/ADC0 (io), 24 PA1/ADC1 (io), 25 PA2/ADC2 (io), 26 PA3/ADC3 (io), 27 VSS_4, 28 VIO_4 (power), 29 PA4/ADC4/DAC0 (io), 30 PA5/ADC5/DAC1 (io), 31 PA6/ADC6 (io), 32 PA7/ADC7 (io), 33 PC4/ADC14 (io), 34 PC5/ADC15 (io), 35 PB0/ADC8 (io), 36 PB1/ADC9 (io), 37 PB2/BOOT1 (io), 38 LED0 (out), 39 LED1 (out), 40 VDDK (power), 41 VSS_6, 42 MDITP (io), 43 MDITN (io), 44 MDIRP (io), 45 MDIRN (io), 46 VDD_ETH (power), 47 VSS_1, 48 VIO_1 (power), 49 PB10 (io), 50 PB11 (io), 51 VDD_1 (power), 52 PB12 (io), 53 PB13 (io), 54 PB14 (io), 55 PB15 (io), 56 PD9 (io), 57 PD10 (io), 58 PD11 (io), 59 PD12 (io), 60 PD13 (io), 61 PD14 (io), 62 PD15 (io), 63 PC6 (io), 64 PC7 (io), 65 PC8 (io), 66 PC9 (io), 67 PA8 (io), 68 PA9 (io), 69 PA10 (io), 70 PA11/USB1DM (io), 71 PA12/USB1DP (io), 72 PA13/SWDIO (io), 73 NC (hiz), 74 VSS_2, 75 VDD_2 (power), 76 PA14/SWCLK (io), 77 PA15 (io), 78 PC10 (io), 79 PC11 (io), 80 PC12 (io), 81 PD0 (io), 82 PD1 (io), 83 PD2 (io), 84 PD3 (io), 85 PD4 (io), 86 PD5 (io), 87 PD6 (io), 88 PD7 (io), 89 PB3 (io), 90 PB4 (io), 91 PB5 (io), 92 PB6/USB2DM (io), 93 PB7/USB2DP (io), 94 BOOT0 (in), 95 PB8 (io), 96 PB9 (io), 97 PE0 (io), 98 PE1 (io), 99 VSS_3, 100 VIO_3 (power)
text: 144 MHz; Core V4F

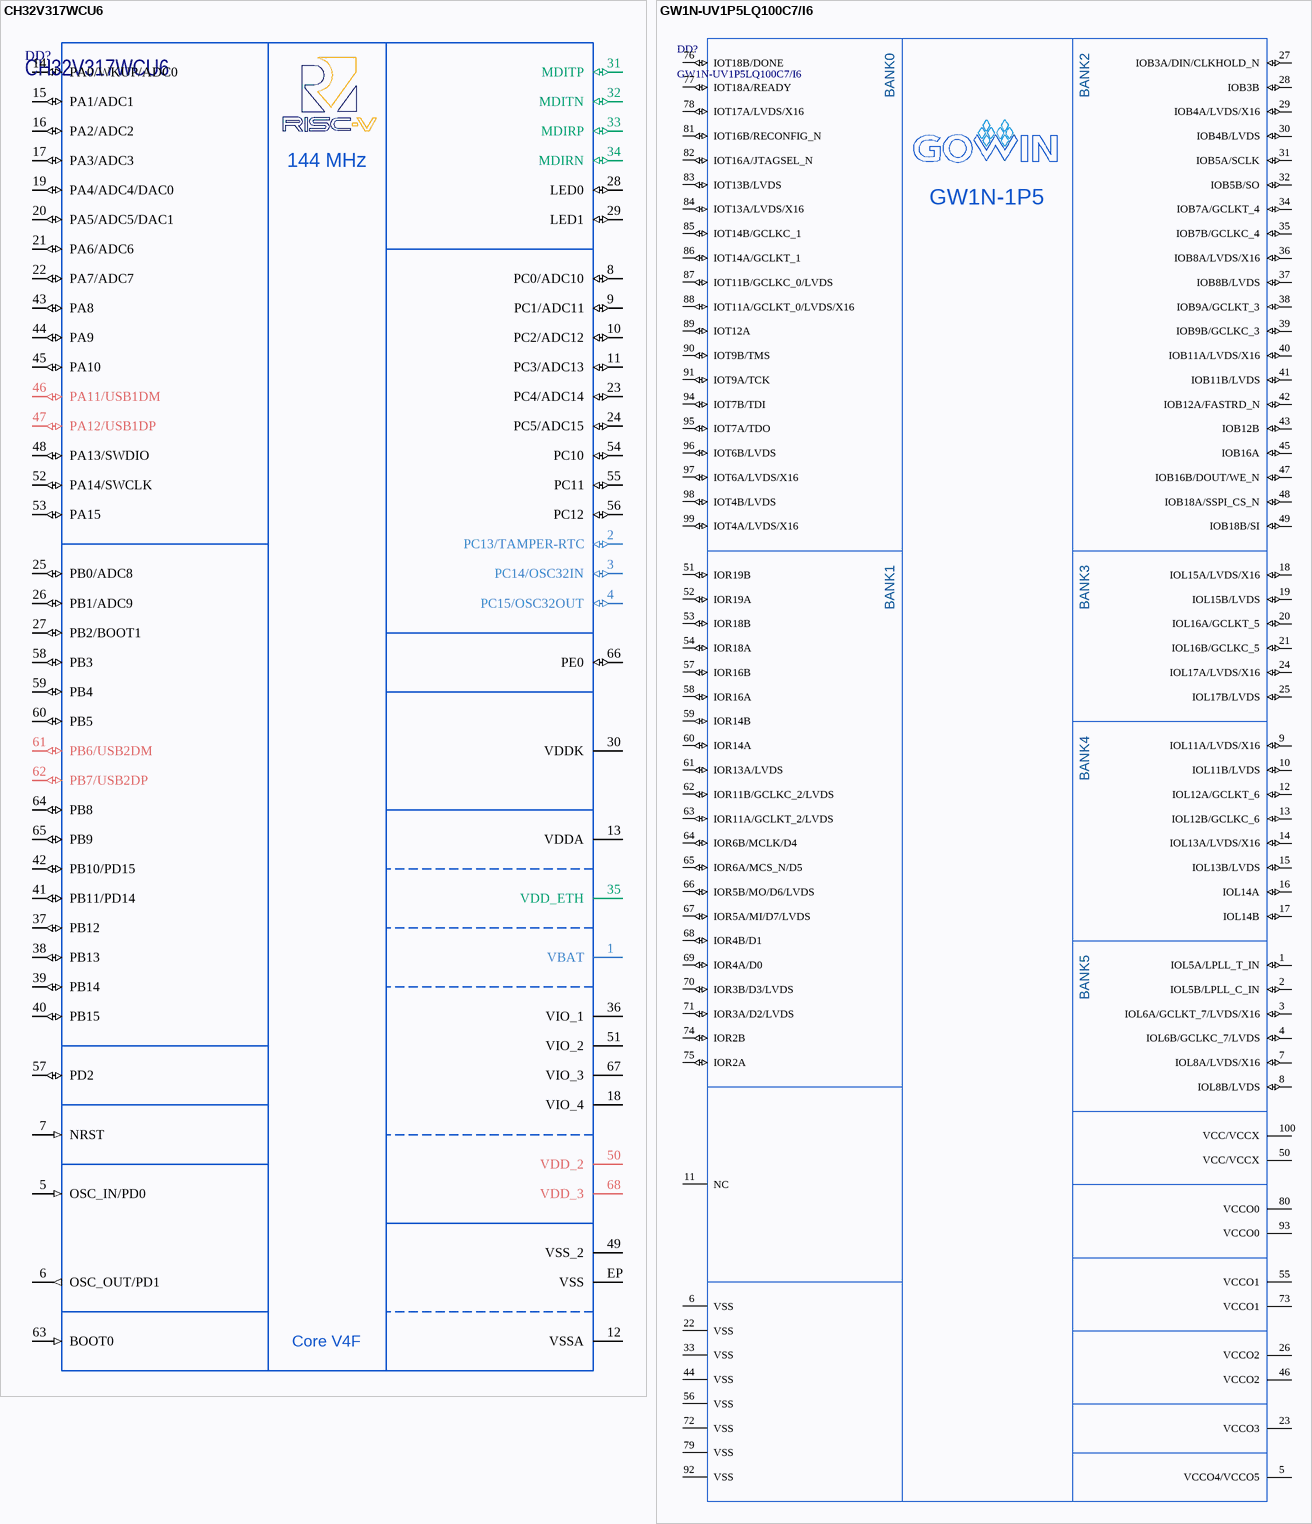
[diagram p6: symbols CH32V317WCU6 to GW1N-UV1P5LQ100C7/I6]

## CH32V317WCU6
designator DD?
RISC-V MCU 144MHz with 256KB flash, 64KB RAM; Manufacturer: WinChipHead; ItemType: IC; Package: QFN-68; Marking: CH32V317; PartNumber: CH32V317WCU6; ItemSubType: MCU; Mounting: SMD
footprint QFN68_WCH (QFN68, 8x8mm with 0.4mm pitch)
footprint QFN68_LQFP100_CH32V317 (QFN68, 8x8mm with 0.4mm pitch with LQFP100)
pins: 1 VBAT (power), 2 PC13/TAMPER-RTC (io), 3 PC14/OSC32IN (io), 4 PC15/OSC32OUT (io), 5 OSC_IN/PD0 (in), 6 OSC_OUT/PD1 (out), 7 NRST (in), 8 PC0/ADC10 (io), 9 PC1/ADC11 (io), 10 PC2/ADC12 (io), 11 PC3/ADC13 (io), 12 VSSA, 13 VDDA (power), 14 PA0/WKUP/ADC0 (io), 15 PA1/ADC1 (io), 16 PA2/ADC2 (io), 17 PA3/ADC3 (io), 18 VIO_4 (power), 19 PA4/ADC4/DAC0 (io), 20 PA5/ADC5/DAC1 (io), 21 PA6/ADC6 (io), 22 PA7/ADC7 (io), 23 PC4/ADC14 (io), 24 PC5/ADC15 (io), 25 PB0/ADC8 (io), 26 PB1/ADC9 (io), 27 PB2/BOOT1 (io), 28 LED0 (io), 29 LED1 (io), 30 VDDK (power), 31 MDITP (io), 32 MDITN (io), 33 MDIRP (io), 34 MDIRN (io), 35 VDD_ETH (power), 36 VIO_1 (power), 37 PB12 (io), 38 PB13 (io), 39 PB14 (io), 40 PB15 (io), 41 PB11/PD14 (io), 42 PB10/PD15 (io), 43 PA8 (io), 44 PA9 (io), 45 PA10 (io), 46 PA11/USB1DM (io), 47 PA12/USB1DP (io), 48 PA13/SWDIO (io), 49 VSS_2, 50 VDD_2 (power), 51 VIO_2 (power), 52 PA14/SWCLK (io), 53 PA15 (io), 54 PC10 (io), 55 PC11 (io), 56 PC12 (io), 57 PD2 (io), 58 PB3 (io), 59 PB4 (io), 60 PB5 (io), 61 PB6/USB2DM (io), 62 PB7/USB2DP (io), 63 BOOT0 (in), 64 PB8 (io), 65 PB9 (io), 66 PE0 (io), 67 VIO_3 (power), 68 VDD_3 (power), EP VSS
text: 144 MHz; Core V4F

## GW1N-UV1P5LQ100C7/I6
designator DD?
LittleBee FPGA, 1584 LUT, 1584 FFT, SRAM 72KBit, User Flash 96KBit, 80 I/O (16 Diff. Pairs); Manufacturer: Gowin Semiconductor; ItemType: IC; PartNumber: GW1N-UV1P5LQ100C7/I6; Package: LQ100; Marking: GW1N-UV1P5; ItemSubType: FPGA; Mounting: SMD
footprint LQ100 (LQFP, 100-Leads, Body 14.00x14.00mm, Pitch 0.50mm, IPC Medium Density)
pins: 1 IOL5A/LPLL_T_IN (io), 2 IOL5B/LPLL_C_IN (io), 3 IOL6A/GCLKT_7/LVDS/X16 (io), 4 IOL6B/GCLKC_7/LVDS (io), 5 VCCO4/VCCO5 (power), 6 VSS, 7 IOL8A/LVDS/X16 (io), 8 IOL8B/LVDS (io), 9 IOL11A/LVDS/X16 (io), 10 IOL11B/LVDS (io), 11 NC (hiz), 12 IOL12A/GCLKT_6 (io), 13 IOL12B/GCLKC_6 (io), 14 IOL13A/LVDS/X16 (io), 15 IOL13B/LVDS (io), 16 IOL14A (io), 17 IOL14B (io), 18 IOL15A/LVDS/X16 (io), 19 IOL15B/LVDS (io), 20 IOL16A/GCLKT_5 (io), 21 IOL16B/GCLKC_5 (io), 22 VSS, 23 VCCO3 (power), 24 IOL17A/LVDS/X16 (io), 25 IOL17B/LVDS (io), 26 VCCO2 (power), 27 IOB3A/DIN/CLKHOLD_N (io), 28 IOB3B (io), 29 IOB4A/LVDS/X16 (io), 30 IOB4B/LVDS (io), 31 IOB5A/SCLK (io), 32 IOB5B/SO (io), 33 VSS, 34 IOB7A/GCLKT_4 (io), 35 IOB7B/GCLKC_4 (io), 36 IOB8A/LVDS/X16 (io), 37 IOB8B/LVDS (io), 38 IOB9A/GCLKT_3 (io), 39 IOB9B/GCLKC_3 (io), 40 IOB11A/LVDS/X16 (io), 41 IOB11B/LVDS (io), 42 IOB12A/FASTRD_N (io), 43 IOB12B (io), 44 VSS, 45 IOB16A (io), 46 VCCO2 (power), 47 IOB16B/DOUT/WE_N (io), 48 IOB18A/SSPI_CS_N (io), 49 IOB18B/SI (io), 50 VCC/VCCX (power), 51 IOR19B (io), 52 IOR19A (io), 53 IOR18B (io), 54 IOR18A (io), 55 VCCO1 (power), 56 VSS, 57 IOR16B (io), 58 IOR16A (io), 59 IOR14B (io), 60 IOR14A (io), 61 IOR13A/LVDS (io), 62 IOR11B/GCLKC_2/LVDS (io), 63 IOR11A/GCLKT_2/LVDS (io), 64 IOR6B/MCLK/D4 (io), 65 IOR6A/MCS_N/D5 (io), 66 IOR5B/MO/D6/LVDS (io), 67 IOR5A/MI/D7/LVDS (io), 68 IOR4B/D1 (io), 69 IOR4A/D0 (io), 70 IOR3B/D3/LVDS (io), 71 IOR3A/D2/LVDS (io), 72 VSS, 73 VCCO1 (power), 74 IOR2B (io), 75 IOR2A (io), 76 IOT18B/DONE (io), 77 IOT18A/READY (io), 78 IOT17A/LVDS/X16 (io), 79 VSS, 80 VCCO0 (power), 81 IOT16B/RECONFIG_N (io), 82 IOT16A/JTAGSEL_N (io), 83 IOT13B/LVDS (io), 84 IOT13A/LVDS/X16 (io), 85 IOT14B/GCLKC_1 (io), 86 IOT14A/GCLKT_1 (io), 87 IOT11B/GCLKC_0/LVDS (io), 88 IOT11A/GCLKT_0/LVDS/X16 (io), 89 IOT12A (io), 90 IOT9B/TMS (io), 91 IOT9A/TCK (io), 92 VSS, 93 VCCO0 (power), 94 IOT7B/TDI (io), 95 IOT7A/TDO (io), 96 IOT6B/LVDS (io), 97 IOT6A/LVDS/X16 (io), 98 IOT4B/LVDS (io), 99 IOT4A/LVDS/X16 (io), 100 VCC/VCCX (power)
text: BANK0; BANK2; GW1N-1P5; BANK1; BANK3; BANK4; BANK5

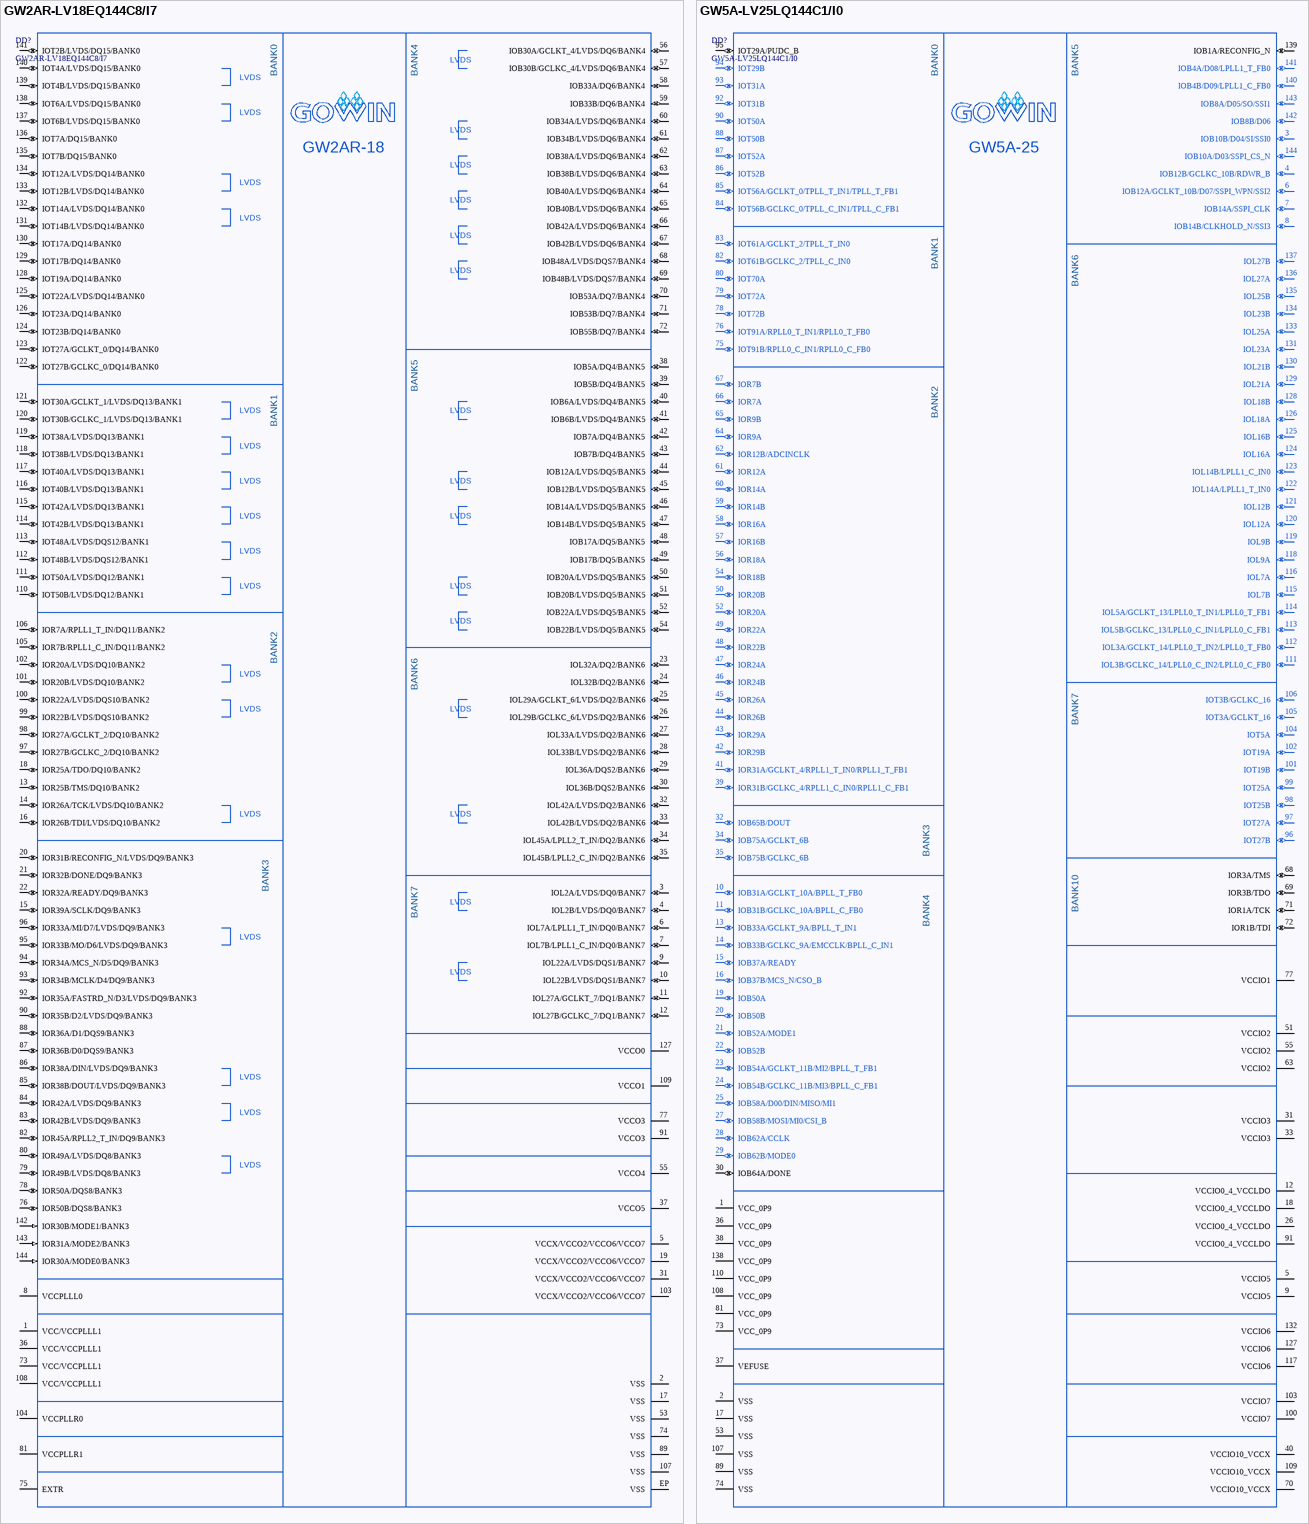
[diagram p7: symbols GW2AR-LV18EQ144C8/I7 to GW5A-LV25LQ144C1/I0]

## GW2AR-LV18EQ144C8/I7
designator DD?
Arora II FPGA, 20736 LUT4, 15552 FFT, Block SRAM 828KBit, 120 I/O (35 Diff. Pairs), Intergrated RAM (64Mbit); Manufacturer: Gowin Semiconductor; ItemType: IC; PartNumber: GW2AR-LV18EQ144C8/I7; Package: EQ144; ItemSubType: FPGA; Mounting: SMD
footprint EQ144_GW2AR (EQFP-144, 144-Leads, Body 20.00x20.00mm, Pitch 0.50mm, Thermal Pad 9.74x9.74mm)
pins: 1 VCC/VCCPLLL1 (power), 2 VSS, 3 IOL2A/LVDS/DQ0/BANK7 (io), 4 IOL2B/LVDS/DQ0/BANK7 (io), 5 VCCX/VCCO2/VCCO6/VCCO7 (power), 6 IOL7A/LPLL1_T_IN/DQ0/BANK7 (io), 7 IOL7B/LPLL1_C_IN/DQ0/BANK7 (io), 8 VCCPLLL0 (power), 9 IOL22A/LVDS/DQS1/BANK7 (io), 10 IOL22B/LVDS/DQS1/BANK7 (io), 11 IOL27A/GCLKT_7/DQ1/BANK7 (io), 12 IOL27B/GCLKC_7/DQ1/BANK7 (io), 13 IOR25B/TMS/DQ10/BANK2 (io), 14 IOR26A/TCK/LVDS/DQ10/BANK2 (io), 15 IOR39A/SCLK/DQ9/BANK3 (io), 16 IOR26B/TDI/LVDS/DQ10/BANK2 (io), 17 VSS, 18 IOR25A/TDO/DQ10/BANK2 (io), 19 VCCX/VCCO2/VCCO6/VCCO7 (power), 20 IOR31B/RECONFIG_N/LVDS/DQ9/BANK3 (io), 21 IOR32B/DONE/DQ9/BANK3 (io), 22 IOR32A/READY/DQ9/BANK3 (io), 23 IOL32A/DQ2/BANK6 (io), 24 IOL32B/DQ2/BANK6 (io), 25 IOL29A/GCLKT_6/LVDS/DQ2/BANK6 (io), 26 IOL29B/GCLKC_6/LVDS/DQ2/BANK6 (io), 27 IOL33A/LVDS/DQ2/BANK6 (io), 28 IOL33B/LVDS/DQ2/BANK6 (io), 29 IOL36A/DQS2/BANK6 (io), 30 IOL36B/DQS2/BANK6 (io), 31 VCCX/VCCO2/VCCO6/VCCO7 (power), 32 IOL42A/LVDS/DQ2/BANK6 (io), 33 IOL42B/LVDS/DQ2/BANK6 (io), 34 IOL45A/LPLL2_T_IN/DQ2/BANK6 (io), 35 IOL45B/LPLL2_C_IN/DQ2/BANK6 (io), 36 VCC/VCCPLLL1 (power), 37 VCCO5 (power), 38 IOB5A/DQ4/BANK5 (io), 39 IOB5B/DQ4/BANK5 (io), 40 IOB6A/LVDS/DQ4/BANK5 (io), 41 IOB6B/LVDS/DQ4/BANK5 (io), 42 IOB7A/DQ4/BANK5 (io), 43 IOB7B/DQ4/BANK5 (io), 44 IOB12A/LVDS/DQ5/BANK5 (io), 45 IOB12B/LVDS/DQ5/BANK5 (io), 46 IOB14A/LVDS/DQ5/BANK5 (io), 47 IOB14B/LVDS/DQ5/BANK5 (io), 48 IOB17A/DQ5/BANK5 (io), 49 IOB17B/DQ5/BANK5 (io), 50 IOB20A/LVDS/DQ5/BANK5 (io), 51 IOB20B/LVDS/DQ5/BANK5 (io), 52 IOB22A/LVDS/DQ5/BANK5 (io), 53 VSS, 54 IOB22B/LVDS/DQ5/BANK5 (io), 55 VCCO4 (power), 56 IOB30A/GCLKT_4/LVDS/DQ6/BANK4 (io), 57 IOB30B/GCLKC_4/LVDS/DQ6/BANK4 (io), 58 IOB33A/DQ6/BANK4 (io), 59 IOB33B/DQ6/BANK4 (io), 60 IOB34A/LVDS/DQ6/BANK4 (io), 61 IOB34B/LVDS/DQ6/BANK4 (io), 62 IOB38A/LVDS/DQ6/BANK4 (io), 63 IOB38B/LVDS/DQ6/BANK4 (io), 64 IOB40A/LVDS/DQ6/BANK4 (io), 65 IOB40B/LVDS/DQ6/BANK4 (io), 66 IOB42A/LVDS/DQ6/BANK4 (io), 67 IOB42B/LVDS/DQ6/BANK4 (io), 68 IOB48A/LVDS/DQS7/BANK4 (io), 69 IOB48B/LVDS/DQS7/BANK4 (io), 70 IOB53A/DQ7/BANK4 (io), 71 IOB53B/DQ7/BANK4 (io), 72 IOB55B/DQ7/BANK4 (io), 73 VCC/VCCPLLL1 (power), 74 VSS, 75 EXTR, 76 IOR50B/DQS8/BANK3 (io), 77 VCCO3 (power), 78 IOR50A/DQS8/BANK3 (io), 79 IOR49B/LVDS/DQ8/BANK3 (io), 80 IOR49A/LVDS/DQ8/BANK3 (io), 81 VCCPLLR1 (power), 82 IOR45A/RPLL2_T_IN/DQ9/BANK3 (io), 83 IOR42B/LVDS/DQ9/BANK3 (io), 84 IOR42A/LVDS/DQ9/BANK3 (io), 85 IOR38B/DOUT/LVDS/DQ9/BANK3 (io), 86 IOR38A/DIN/LVDS/DQ9/BANK3 (io), 87 IOR36B/D0/DQS9/BANK3 (io), 88 IOR36A/D1/DQS9/BANK3 (io), 89 VSS, 90 IOR35B/D2/LVDS/DQ9/BANK3 (io), 91 VCCO3 (power), 92 IOR35A/FASTRD_N/D3/LVDS/DQ9/BANK3 (io), 93 IOR34B/MCLK/D4/DQ9/BANK3 (io), 94 IOR34A/MCS_N/D5/DQ9/BANK3 (io), 95 IOR33B/MO/D6/LVDS/DQ9/BANK3 (io), 96 IOR33A/MI/D7/LVDS/DQ9/BANK3 (io), 97 IOR27B/GCLKC_2/DQ10/BANK2 (io), 98 IOR27A/GCLKT_2/DQ10/BANK2 (io), 99 IOR22B/LVDS/DQS10/BANK2 (io), 100 IOR22A/LVDS/DQS10/BANK2 (io), 101 IOR20B/LVDS/DQ10/BANK2 (io), 102 IOR20A/LVDS/DQ10/BANK2 (io), 103 VCCX/VCCO2/VCCO6/VCCO7 (power), 104 VCCPLLR0 (power), 105 IOR7B/RPLL1_C_IN/DQ11/BANK2 (io), 106 IOR7A/RPLL1_T_IN/DQ11/BANK2 (io), 107 VSS, 108 VCC/VCCPLLL1 (power), 109 VCCO1 (power), 110 IOT50B/LVDS/DQ12/BANK1 (io), 111 IOT50A/LVDS/DQ12/BANK1 (io), 112 IOT48B/LVDS/DQS12/BANK1 (io), 113 IOT48A/LVDS/DQS12/BANK1 (io), 114 IOT42B/LVDS/DQ13/BANK1 (io), 115 IOT42A/LVDS/DQ13/BANK1 (io), 116 IOT40B/LVDS/DQ13/BANK1 (io), 117 IOT40A/LVDS/DQ13/BANK1 (io), 118 IOT38B/LVDS/DQ13/BANK1 (io), 119 IOT38A/LVDS/DQ13/BANK1 (io), 120 IOT30B/GCLKC_1/LVDS/DQ13/BANK1 (io), 121 IOT30A/GCLKT_1/LVDS/DQ13/BANK1 (io), 122 IOT27B/GCLKC_0/DQ14/BANK0 (io), 123 IOT27A/GCLKT_0/DQ14/BANK0 (io), 124 IOT23B/DQ14/BANK0 (io), 125 IOT22A/LVDS/DQ14/BANK0 (io), 126 IOT23A/DQ14/BANK0 (io), 127 VCCO0 (power), 128 IOT19A/DQ14/BANK0 (io), 129 IOT17B/DQ14/BANK0 (io), 130 IOT17A/DQ14/BANK0 (io), 131 IOT14B/LVDS/DQ14/BANK0 (io), 132 IOT14A/LVDS/DQ14/BANK0 (io), 133 IOT12B/LVDS/DQ14/BANK0 (io), 134 IOT12A/LVDS/DQ14/BANK0 (io), 135 IOT7B/DQ15/BANK0 (io), 136 IOT7A/DQ15/BANK0 (io), 137 IOT6B/LVDS/DQ15/BANK0 (io), 138 IOT6A/LVDS/DQ15/BANK0 (io), 139 IOT4B/LVDS/DQ15/BANK0 (io), 140 IOT4A/LVDS/DQ15/BANK0 (io), 141 IOT2B/LVDS/DQ15/BANK0 (io), 142 IOR30B/MODE1/BANK3 (in), 143 IOR31A/MODE2/BANK3 (in), 144 IOR30A/MODE0/BANK3 (in), EP VSS
text: BANK0; BANK4; LVDS; GW2AR-18; BANK5; BANK1; BANK2; BANK6; BANK3; BANK7

## GW5A-LV25LQ144C1/I0
designator DD?
Arora V FPGA, 23040 LUT4, 23040 REG, Block SRAM 1008KBit, 109 I/O (50 Diff. Pairs); Manufacturer: Gowin Semiconductor; ItemType: IC; PartNumber: GW5A-LV25LQ144C1/I0; Package: LQ144; ItemSubType: FPGA; Mounting: SMD
footprint LQ144_GW5A (LQFP-144, 144-Leads, Body 20.00x20.00mm, Pitch 0.50mm)
pins: 1 VCC_0P9 (power), 2 VSS, 3 IOB10B/D04/SI/SSI0 (io), 4 IOB12B/GCLKC_10B/RDWR_B (io), 5 VCCIO5 (power), 6 IOB12A/GCLKT_10B/D07/SSPI_WPN/SSI2 (io), 7 IOB14A/SSPI_CLK (io), 8 IOB14B/CLKHOLD_N/SSI3 (io), 9 VCCIO5 (power), 10 IOB31A/GCLKT_10A/BPLL_T_FB0 (io), 11 IOB31B/GCLKC_10A/BPLL_C_FB0 (io), 12 VCCIO0_4_VCCLDO (power), 13 IOB33A/GCLKT_9A/BPLL_T_IN1 (io), 14 IOB33B/GCLKC_9A/EMCCLK/BPLL_C_IN1 (io), 15 IOB37A/READY (io), 16 IOB37B/MCS_N/CSO_B (io), 17 VSS, 18 VCCIO0_4_VCCLDO (power), 19 IOB50A (io), 20 IOB50B (io), 21 IOB52A/MODE1 (io), 22 IOB52B (io), 23 IOB54A/GCLKT_11B/MI2/BPLL_T_FB1 (io), 24 IOB54B/GCLKC_11B/MI3/BPLL_C_FB1 (io), 25 IOB58A/D00/DIN/MISO/MI1 (io), 26 VCCIO0_4_VCCLDO (power), 27 IOB58B/MOSI/MI0/CSI_B (io), 28 IOB62A/CCLK (io), 29 IOB62B/MODE0 (io), 30 IOB64A/DONE (io), 31 VCCIO3 (power), 32 IOB65B/DOUT (io), 33 VCCIO3 (power), 34 IOB75A/GCLKT_6B (io), 35 IOB75B/GCLKC_6B (io), 36 VCC_0P9 (power), 37 VEFUSE, 38 VCC_0P9 (power), 39 IOR31B/GCLKC_4/RPLL1_C_IN0/RPLL1_C_FB1 (io), 40 VCCIO10_VCCX (power), 41 IOR31A/GCLKT_4/RPLL1_T_IN0/RPLL1_T_FB1 (io), 42 IOR29B (io), 43 IOR29A (io), 44 IOR26B (io), 45 IOR26A (io), 46 IOR24B (io), 47 IOR24A (io), 48 IOR22B (io), 49 IOR22A (io), 50 IOR20B (io), 51 VCCIO2 (power), 52 IOR20A (io), 53 VSS, 54 IOR18B (io), 55 VCCIO2 (power), 56 IOR18A (io), 57 IOR16B (io), 58 IOR16A (io), 59 IOR14B (io), 60 IOR14A (io), 61 IOR12A (io), 62 IOR12B/ADCINCLK (io), 63 VCCIO2 (power), 64 IOR9A (io), 65 IOR9B (io), 66 IOR7A (io), 67 IOR7B (io), 68 IOR3A/TMS (io), 69 IOR3B/TDO (io), 70 VCCIO10_VCCX (power), 71 IOR1A/TCK (io), 72 IOR1B/TDI (io), 73 VCC_0P9 (power), 74 VSS, 75 IOT91B/RPLL0_C_IN1/RPLL0_C_FB0 (io), 76 IOT91A/RPLL0_T_IN1/RPLL0_T_FB0 (io), 77 VCCIO1 (power), 78 IOT72B (io), 79 IOT72A (io), 80 IOT70A (io), 81 VCC_0P9 (power), 82 IOT61B/GCLKC_2/TPLL_C_IN0 (io), 83 IOT61A/GCLKT_2/TPLL_T_IN0 (io), 84 IOT56B/GCLKC_0/TPLL_C_IN1/TPLL_C_FB1 (io), 85 IOT56A/GCLKT_0/TPLL_T_IN1/TPLL_T_FB1 (io), 86 IOT52B (io), 87 IOT52A (io), 88 IOT50B (io), 89 VSS, 90 IOT50A (io), 91 VCCIO0_4_VCCLDO (power), 92 IOT31B (io), 93 IOT31A (io), 94 IOT29B (io), 95 IOT29A/PUDC_B (io), 96 IOT27B (io), 97 IOT27A (io), 98 IOT25B (io), 99 IOT25A (io), 100 VCCIO7 (power), 101 IOT19B (io), 102 IOT19A (io), 103 VCCIO7 (power), 104 IOT5A (io), 105 IOT3A/GCLKT_16 (io), 106 IOT3B/GCLKC_16 (io), 107 VSS, 108 VCC_0P9 (power), 109 VCCIO10_VCCX (power), 110 VCC_0P9 (power), 111 IOL3B/GCLKC_14/LPLL0_C_IN2/LPLL0_C_FB0 (io), 112 IOL3A/GCLKT_14/LPLL0_T_IN2/LPLL0_T_FB0 (io), 113 IOL5B/GCLKC_13/LPLL0_C_IN1/LPLL0_C_FB1 (io), 114 IOL5A/GCLKT_13/LPLL0_T_IN1/LPLL0_T_FB1 (io), 115 IOL7B (io), 116 IOL7A (io), 117 VCCIO6 (power), 118 IOL9A (io), 119 IOL9B (io), 120 IOL12A (io), 121 IOL12B (io), 122 IOL14A/LPLL1_T_IN0 (io), 123 IOL14B/LPLL1_C_IN0 (io), 124 IOL16A (io), 125 IOL16B (io), 126 IOL18A (io), 127 VCCIO6 (power), 128 IOL18B (io), 129 IOL21A (io), 130 IOL21B (io), 131 IOL23A (io), 132 VCCIO6 (power), 133 IOL25A (io), 134 IOL23B (io), 135 IOL25B (io), 136 IOL27A (io), 137 IOL27B (io), 138 VCC_0P9 (power), 139 IOB1A/RECONFIG_N (io), 140 IOB4B/D09/LPLL1_C_FB0 (io), 141 IOB4A/D08/LPLL1_T_FB0 (io), 142 IOB8B/D06 (io), 143 IOB8A/D05/SO/SSI1 (io), 144 IOB10A/D03/SSPI_CS_N (io)
text: BANK0; BANK5; GW5A-25; BANK1; BANK6; BANK2; BANK7; BANK3; BANK10; BANK4

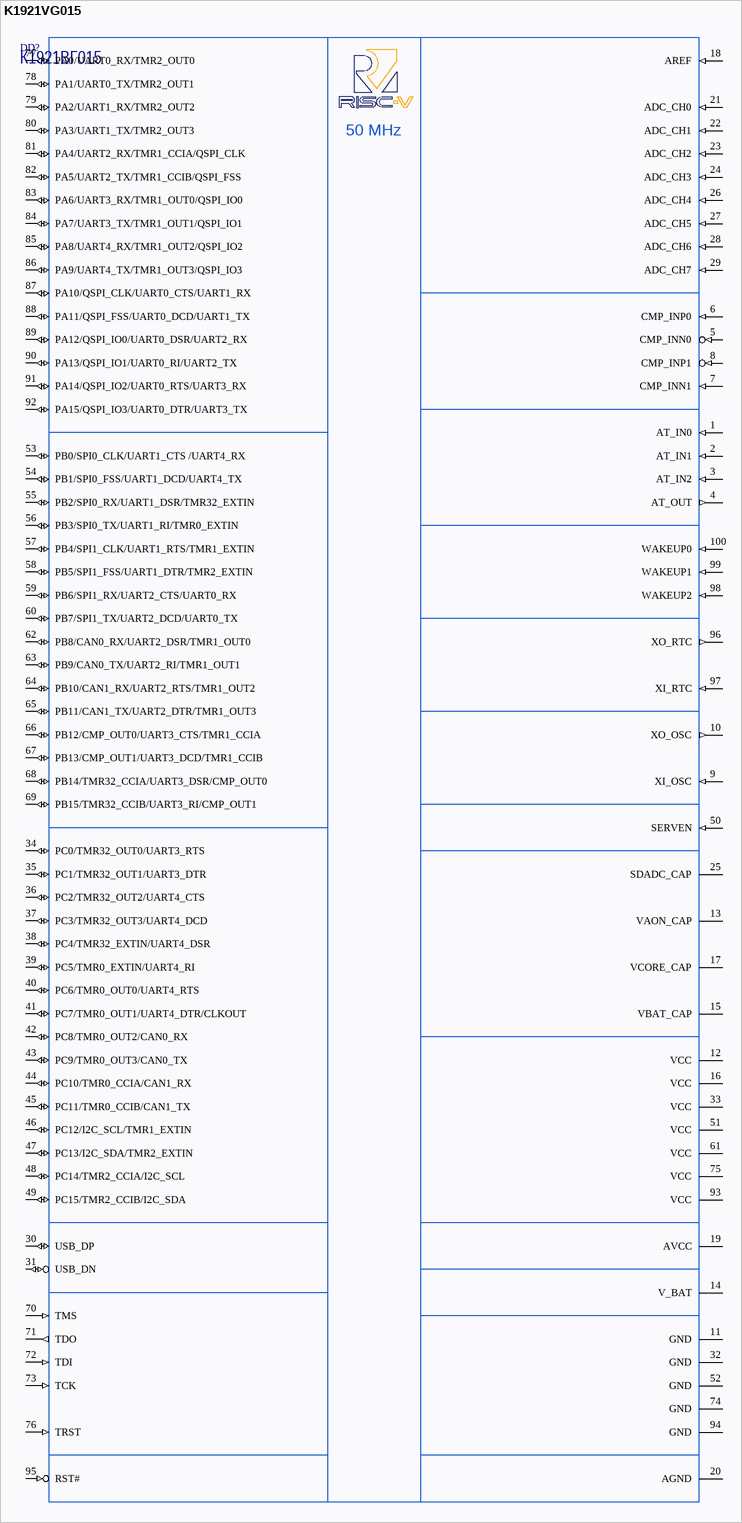
[diagram p8: symbol K1921VG015]

## K1921VG015
designator DD?, comment К1921ВГ015
RISC-V MCU, 1.62-3.6 VCC, 50MHz with 1MB flash, 320KB RAM (256KB RAM1 + 64KB RAM2); Manufacturer: НИИЭТ; ItemType: IC; Package: LQFP-100; PartNumber: К1921ВГ015; ItemSubType: MCU; Mounting: SMD
footprint LQFP100_1921VG015 (LQFP-100, 100-Leads, Body 14,00x14,00mm, Pitch 0,50mm)
pins: 1 AT_IN0 (in), 2 AT_IN1 (in), 3 AT_IN2 (in), 4 AT_OUT (out), 5 CMP_INN0 (in), 6 CMP_INP0 (in), 7 CMP_INN1 (in), 8 CMP_INP1 (in), 9 XI_OSC (in), 10 XO_OSC (out), 11 GND, 12 VCC (power), 13 VAON_CAP, 14 V_BAT (power), 15 VBAT_CAP, 16 VCC (power), 17 VCORE_CAP, 18 AREF (in), 19 AVCC (power), 20 AGND, 21 ADC_CH0 (in), 22 ADC_CH1 (in), 23 ADC_CH2 (in), 24 ADC_CH3 (in), 25 SDADC_CAP, 26 ADC_CH4 (in), 27 ADC_CH5 (in), 28 ADC_CH6 (in), 29 ADC_CH7 (in), 30 USB_DP  (io), 31 USB_DN (io), 32 GND, 33 VCC (power), 34 PC0/TMR32_OUT0/UART3_RTS (io), 35 PC1/TMR32_OUT1/UART3_DTR (io), 36 PC2/TMR32_OUT2/UART4_CTS (io), 37 PC3/TMR32_OUT3/UART4_DCD (io), 38 PC4/TMR32_EXTIN/UART4_DSR (io), 39 PC5/TMR0_EXTIN/UART4_RI (io), 40 PC6/TMR0_OUT0/UART4_RTS (io), 41 PC7/TMR0_OUT1/UART4_DTR/CLKOUT (io), 42 PC8/TMR0_OUT2/CAN0_RX (io), 43 PC9/TMR0_OUT3/CAN0_TX (io), 44 PC10/TMR0_CCIA/CAN1_RX (io), 45 PC11/TMR0_CCIB/CAN1_TX (io), 46 PC12/I2C_SCL/TMR1_EXTIN (io), 47 PC13/I2C_SDA/TMR2_EXTIN (io), 48 PC14/TMR2_CCIA/I2C_SCL (io), 49 PC15/TMR2_CCIB/I2C_SDA (io), 50 SERVEN (in), 51 VCC (power), 52 GND, 53 PB0/SPI0_CLK/UART1_CTS /UART4_RX (io), 54 PB1/SPI0_FSS/UART1_DCD/UART4_TX (io), 55 PB2/SPI0_RX/UART1_DSR/TMR32_EXTIN (io), 56 PB3/SPI0_TX/UART1_RI/TMR0_EXTIN (io), 57 PB4/SPI1_CLK/UART1_RTS/TMR1_EXTIN (io), 58 PB5/SPI1_FSS/UART1_DTR/TMR2_EXTIN (io), 59 PB6/SPI1_RX/UART2_CTS/UART0_RX (io), 60 PB7/SPI1_TX/UART2_DCD/UART0_TX (io), 61 VCC (power), 62 PB8/CAN0_RX/UART2_DSR/TMR1_OUT0 (io), 63 PB9/CAN0_TX/UART2_RI/TMR1_OUT1 (io), 64 PB10/CAN1_RX/UART2_RTS/TMR1_OUT2 (io), 65 PB11/CAN1_TX/UART2_DTR/TMR1_OUT3 (io), 66 PB12/CMP_OUT0/UART3_CTS/TMR1_CCIA (io), 67 PB13/CMP_OUT1/UART3_DCD/TMR1_CCIB (io), 68 PB14/TMR32_CCIA/UART3_DSR/CMP_OUT0 (io), 69 PB15/TMR32_CCIB/UART3_RI/CMP_OUT1 (io), 70 TMS (in), 71 TDO (out), 72 TDI (in), 73 TCK (in), 74 GND, 75 VCC (power), 76 TRST (in), 77 PA0/UART0_RX/TMR2_OUT0 (io), 78 PA1/UART0_TX/TMR2_OUT1 (io), 79 PA2/UART1_RX/TMR2_OUT2 (io), 80 PA3/UART1_TX/TMR2_OUT3 (io), 81 PA4/UART2_RX/TMR1_CCIA/QSPI_CLK (io), 82 PA5/UART2_TX/TMR1_CCIB/QSPI_FSS (io), 83 PA6/UART3_RX/TMR1_OUT0/QSPI_IO0 (io), 84 PA7/UART3_TX/TMR1_OUT1/QSPI_IO1 (io), 85 PA8/UART4_RX/TMR1_OUT2/QSPI_IO2 (io), 86 PA9/UART4_TX/TMR1_OUT3/QSPI_IO3 (io), 87 PA10/QSPI_CLK/UART0_CTS/UART1_RX (io), 88 PA11/QSPI_FSS/UART0_DCD/UART1_TX (io), 89 PA12/QSPI_IO0/UART0_DSR/UART2_RX (io), 90 PA13/QSPI_IO1/UART0_RI/UART2_TX (io), 91 PA14/QSPI_IO2/UART0_RTS/UART3_RX (io), 92 PA15/QSPI_IO3/UART0_DTR/UART3_TX (io), 93 VCC (power), 94 GND, 95 RST# (in), 96 XO_RTC (out), 97 XI_RTC (in), 98 WAKEUP2 (in), 99 WAKEUP1 (in), 100 WAKEUP0 (in)
text: 50 MHz

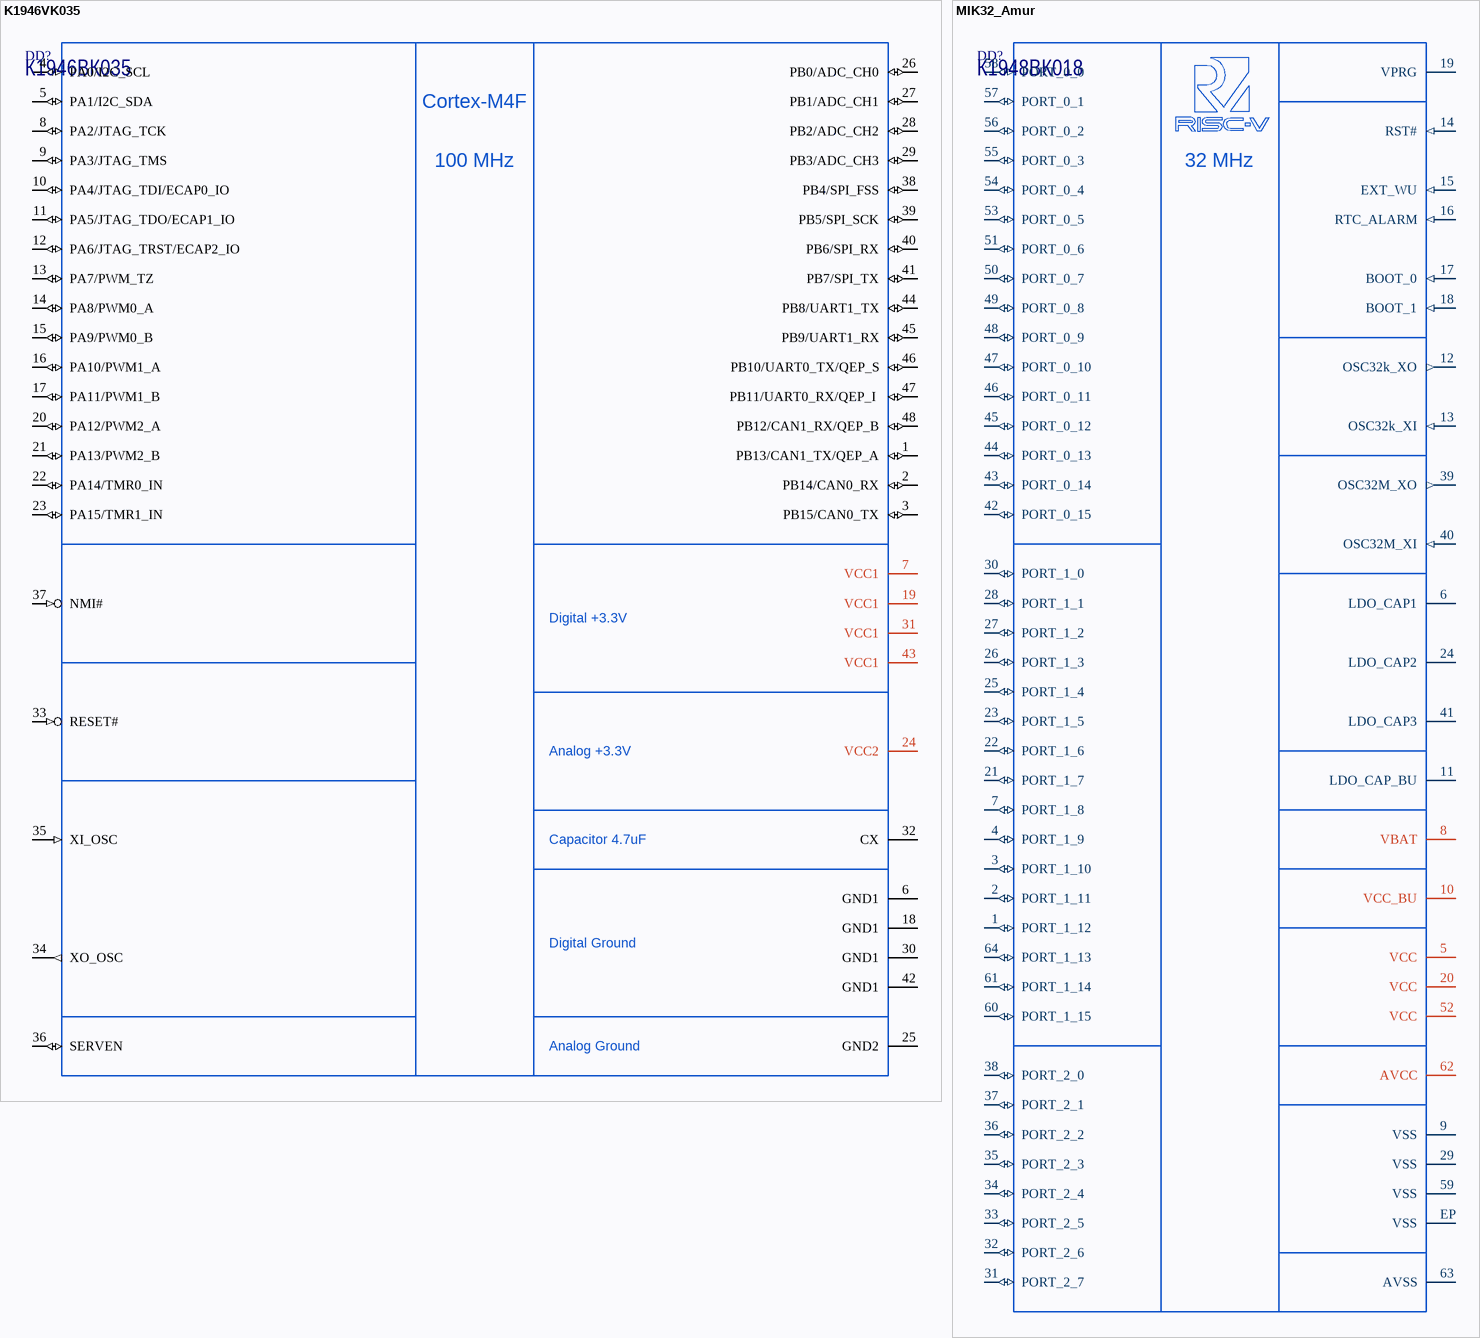
[diagram p9: symbols K1946VK035 to MIK32_Amur]

## K1946VK035
designator DD?, comment К1946ВК035
Cortex-M4F MCU, 100MHz with 64KB flash, 4KB boot flash, 16KB RAM; Manufacturer: НИИЭТ; ItemType: IC; Package: LQFP-48; PartNumber: К1946ВК035; ItemSubType: MCU; Mounting: SMD
footprint LQFP48_NIIET_VK035 (LQFP, 48-Leads, Body 7,00x7,00mm, Pitch 0,50mm)
pins: 1 PB13/CAN1_TX/QEP_A (io), 2 PB14/CAN0_RX (io), 3 PB15/CAN0_TX (io), 4 PA0/I2C_SCL (io), 5 PA1/I2C_SDA (io), 6 GND1, 7 VCC1 (power), 8 PA2/JTAG_TCK (io), 9 PA3/JTAG_TMS (io), 10 PA4/JTAG_TDI/ECAP0_IO (io), 11 PA5/JTAG_TDO/ECAP1_IO (io), 12 PA6/JTAG_TRST/ECAP2_IO (io), 13 PA7/PWM_TZ (io), 14 PA8/PWM0_A (io), 15 PA9/PWM0_B (io), 16 PA10/PWM1_A (io), 17 PA11/PWM1_B (io), 18 GND1, 19 VCC1 (power), 20 PA12/PWM2_A (io), 21 PA13/PWM2_B (io), 22 PA14/TMR0_IN (io), 23 PA15/TMR1_IN (io), 24 VCC2 (power), 25 GND2, 26 PB0/ADC_CH0 (io), 27 PB1/ADC_CH1 (io), 28 PB2/ADC_CH2 (io), 29 PB3/ADC_CH3 (io), 30 GND1, 31 VCC1 (power), 32 CX, 33 RESET# (in), 34 XO_OSC (out), 35 XI_OSC (in), 36 SERVEN (io), 37 NMI# (in), 38 PB4/SPI_FSS (io), 39 PB5/SPI_SCK (io), 40 PB6/SPI_RX (io), 41 PB7/SPI_TX (io), 42 GND1, 43 VCC1 (power), 44 PB8/UART1_TX (io), 45 PB9/UART1_RX (io), 46 PB10/UART0_TX/QEP_S (io), 47 PB11/UART0_RX/QEP_I  (io), 48 PB12/CAN1_RX/QEP_B (io)
text: Cortex-M4F; 100 MHz; Digital +3.3V; Analog +3.3V; Capacitor 4.7uF; Digital Ground; Analog Ground

## MIK32_Amur
designator DD?, comment К1948ВК018
RISC-V MCU 32MHz with 16KB RAM, 8KB EEPROM, 256 bit OTP; Manufacturer: Микрон; ItemType: IC; Package: QFN-64; PartNumber: К1948ВК018; ItemtSubType: MCU; Mounting: SMD
footprint QFN64_MIK32 (QFN 8mm x 8mm, 0.4mm pitch)
pins: 1 PORT_1_12 (io), 2 PORT_1_11 (io), 3 PORT_1_10 (io), 4 PORT_1_9 (io), 5 VCC (power), 6 LDO_CAP1, 7 PORT_1_8 (io), 8 VBAT (power), 9 VSS, 10 VCC_BU (power), 11 LDO_CAP_BU, 12 OSC32k_XO (out), 13 OSC32k_XI (in), 14 RST# (in), 15 EXT_WU (in), 16 RTC_ALARM (in), 17 BOOT_0 (in), 18 BOOT_1 (in), 19 VPRG, 20 VCC (power), 21 PORT_1_7 (io), 22 PORT_1_6 (io), 23 PORT_1_5 (io), 24 LDO_CAP2, 25 PORT_1_4 (io), 26 PORT_1_3 (io), 27 PORT_1_2 (io), 28 PORT_1_1 (io), 29 VSS, 30 PORT_1_0 (io), 31 PORT_2_7 (io), 32 PORT_2_6 (io), 33 PORT_2_5 (io), 34 PORT_2_4 (io), 35 PORT_2_3 (io), 36 PORT_2_2 (io), 37 PORT_2_1 (io), 38 PORT_2_0 (io), 39 OSC32M_XO (out), 40 OSC32M_XI (in), 41 LDO_CAP3, 42 PORT_0_15 (io), 43 PORT_0_14 (io), 44 PORT_0_13 (io), 45 PORT_0_12 (io), 46 PORT_0_11 (io), 47 PORT_0_10 (io), 48 PORT_0_9 (io), 49 PORT_0_8 (io), 50 PORT_0_7 (io), 51 PORT_0_6 (io), 52 VCC (power), 53 PORT_0_5 (io), 54 PORT_0_4 (io), 55 PORT_0_3 (io), 56 PORT_0_2 (io), 57 PORT_0_1 (io), 58 PORT_0_0 (io), 59 VSS, 60 PORT_1_15 (io), 61 PORT_1_14 (io), 62 AVCC (power), 63 AVSS, 64 PORT_1_13 (io), EP VSS
text: 32 MHz

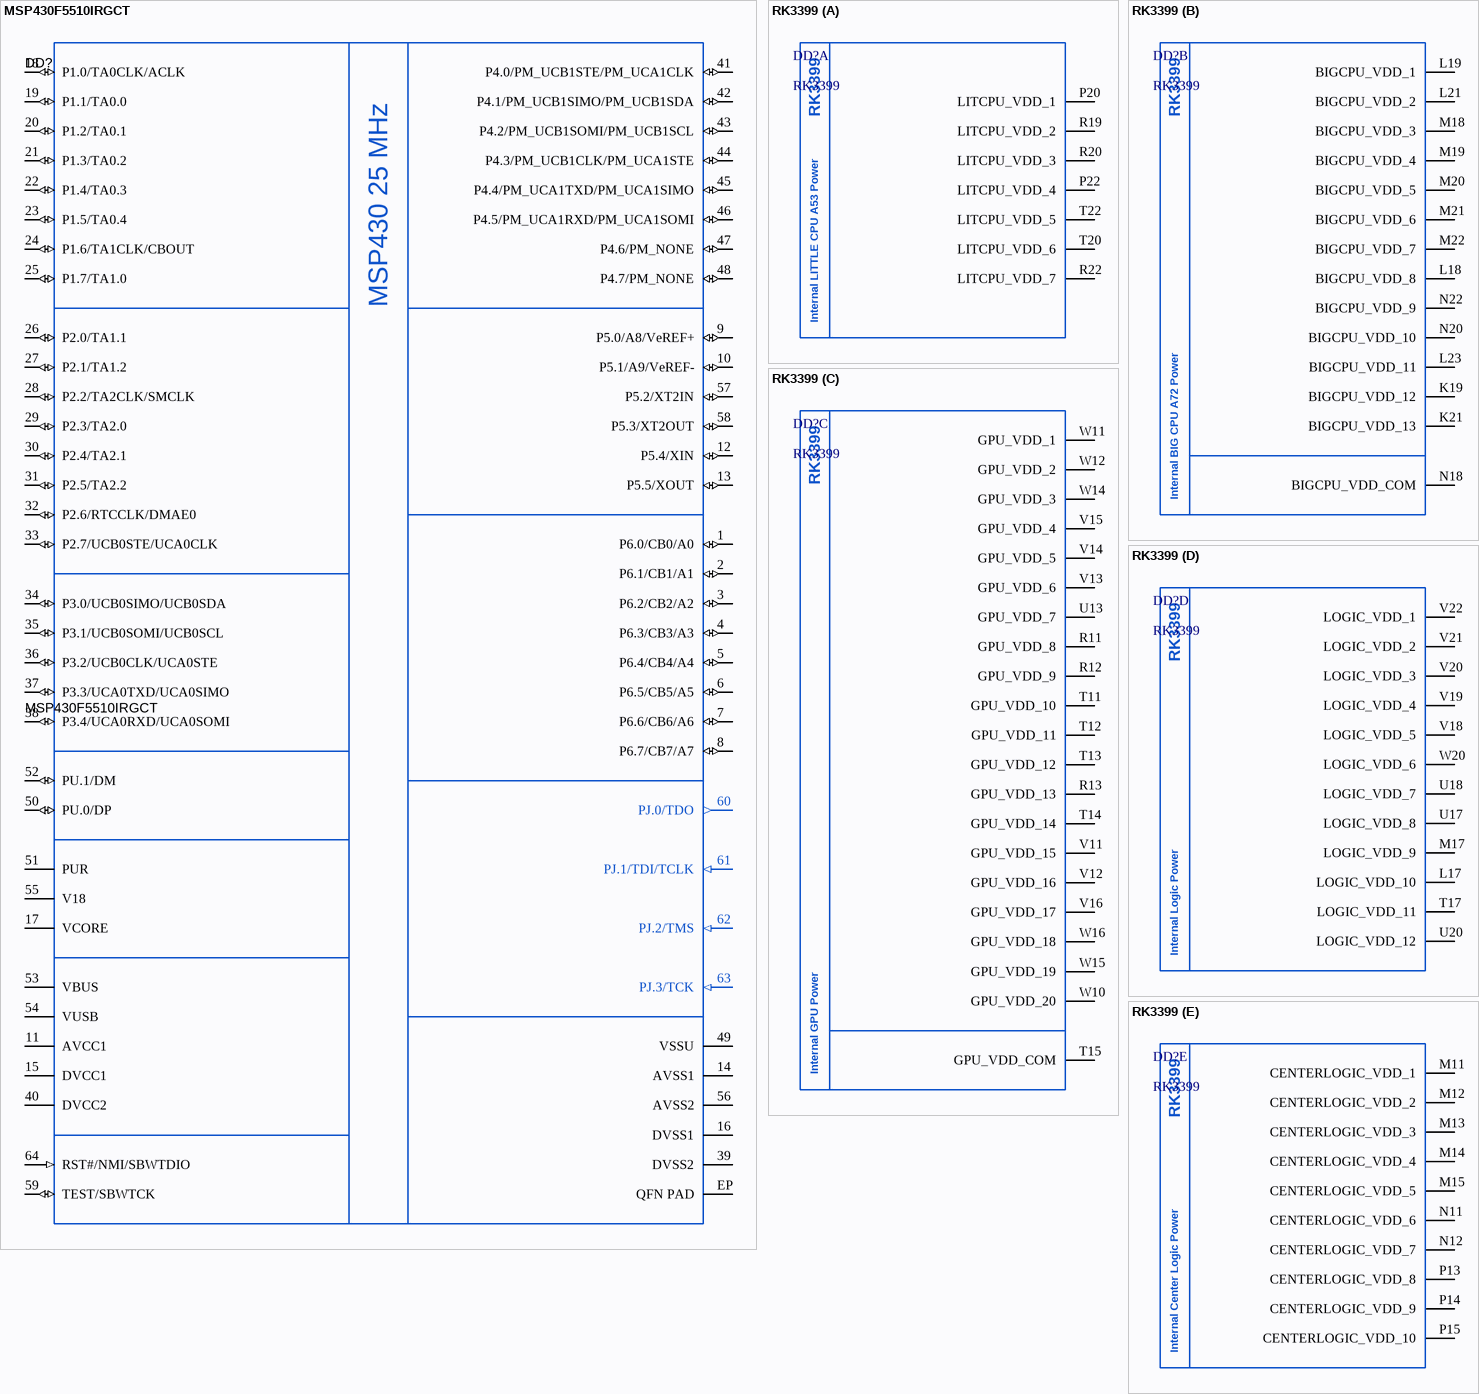
[diagram p10: symbols MSP430F5510IRGCT to RK3399]

## MSP430F5510IRGCT
designator DD?
25 MHz Mixed Signal Microcontroller with 32 KB Flash, 4096 B SRAM and 47 GPIOs, -40 to 85 degC, 64-pin QFN (RGC); Manufacturer: Texas Instruments; Marking: M430F5510; ItemType: IC; ItemSubType: MCU; PartNumber: MSP430F5510IRGCT; Package: QFN-64 (RGC0064B); Mounting: SMD
footprint QFN64_MSP430 (QFN64 9mm x 9mm, 0.5mm pitch)
pins: 1 P6.0/CB0/A0 (io), 2 P6.1/CB1/A1 (io), 3 P6.2/CB2/A2 (io), 4 P6.3/CB3/A3 (io), 5 P6.4/CB4/A4 (io), 6 P6.5/CB5/A5 (io), 7 P6.6/CB6/A6 (io), 8 P6.7/CB7/A7 (io), 9 P5.0/A8/VeREF+ (io), 10 P5.1/A9/VeREF- (io), 11 AVCC1 (power), 12 P5.4/XIN (io), 13 P5.5/XOUT (io), 14 AVSS1, 15 DVCC1 (power), 16 DVSS1, 17 VCORE, 18 P1.0/TA0CLK/ACLK (io), 19 P1.1/TA0.0 (io), 20 P1.2/TA0.1 (io), 21 P1.3/TA0.2 (io), 22 P1.4/TA0.3 (io), 23 P1.5/TA0.4 (io), 24 P1.6/TA1CLK/CBOUT (io), 25 P1.7/TA1.0 (io), 26 P2.0/TA1.1 (io), 27 P2.1/TA1.2 (io), 28 P2.2/TA2CLK/SMCLK (io), 29 P2.3/TA2.0 (io), 30 P2.4/TA2.1 (io), 31 P2.5/TA2.2 (io), 32 P2.6/RTCCLK/DMAE0 (io), 33 P2.7/UCB0STE/UCA0CLK (io), 34 P3.0/UCB0SIMO/UCB0SDA (io), 35 P3.1/UCB0SOMI/UCB0SCL (io), 36 P3.2/UCB0CLK/UCA0STE (io), 37 P3.3/UCA0TXD/UCA0SIMO (io), 38 P3.4/UCA0RXD/UCA0SOMI (io), 39 DVSS2, 40 DVCC2 (power), 41 P4.0/PM_UCB1STE/PM_UCA1CLK (io), 42 P4.1/PM_UCB1SIMO/PM_UCB1SDA (io), 43 P4.2/PM_UCB1SOMI/PM_UCB1SCL (io), 44 P4.3/PM_UCB1CLK/PM_UCA1STE (io), 45 P4.4/PM_UCA1TXD/PM_UCA1SIMO (io), 46 P4.5/PM_UCA1RXD/PM_UCA1SOMI (io), 47 P4.6/PM_NONE (io), 48 P4.7/PM_NONE (io), 49 VSSU, 50 PU.0/DP (io), 51 PUR, 52 PU.1/DM (io), 53 VBUS (power), 54 VUSB (power), 55 V18 (power), 56 AVSS2, 57 P5.2/XT2IN (io), 58 P5.3/XT2OUT (io), 59 TEST/SBWTCK (io), 60 PJ.0/TDO (out), 61 PJ.1/TDI/TCLK (in), 62 PJ.2/TMS (in), 63 PJ.3/TCK (in), 64 RST#/NMI/SBWTDIO (in), EP QFN PAD "QFN package pad connection to VSS recommended."
text: MSP430 25 MHz

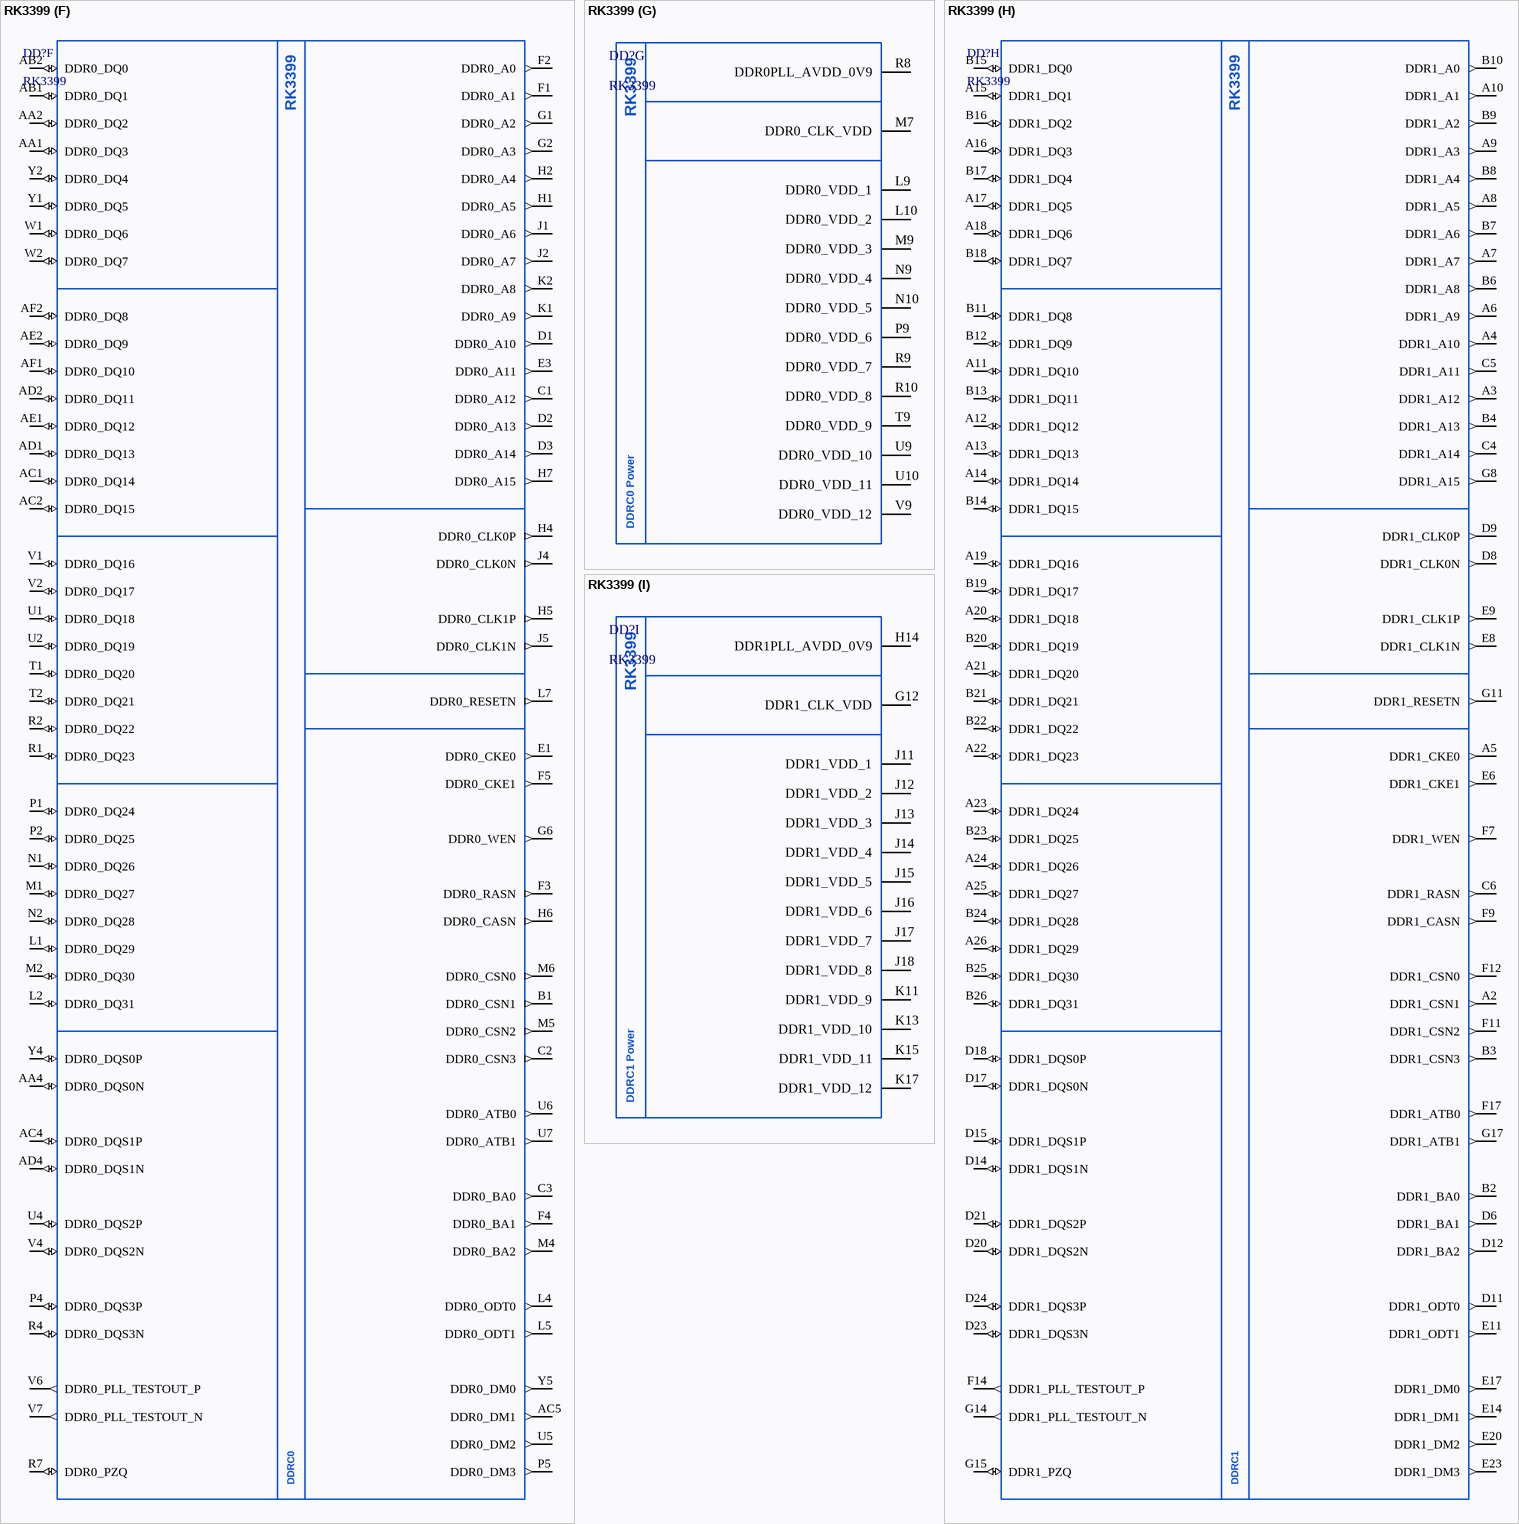
[diagram p11: symbol RK3399]

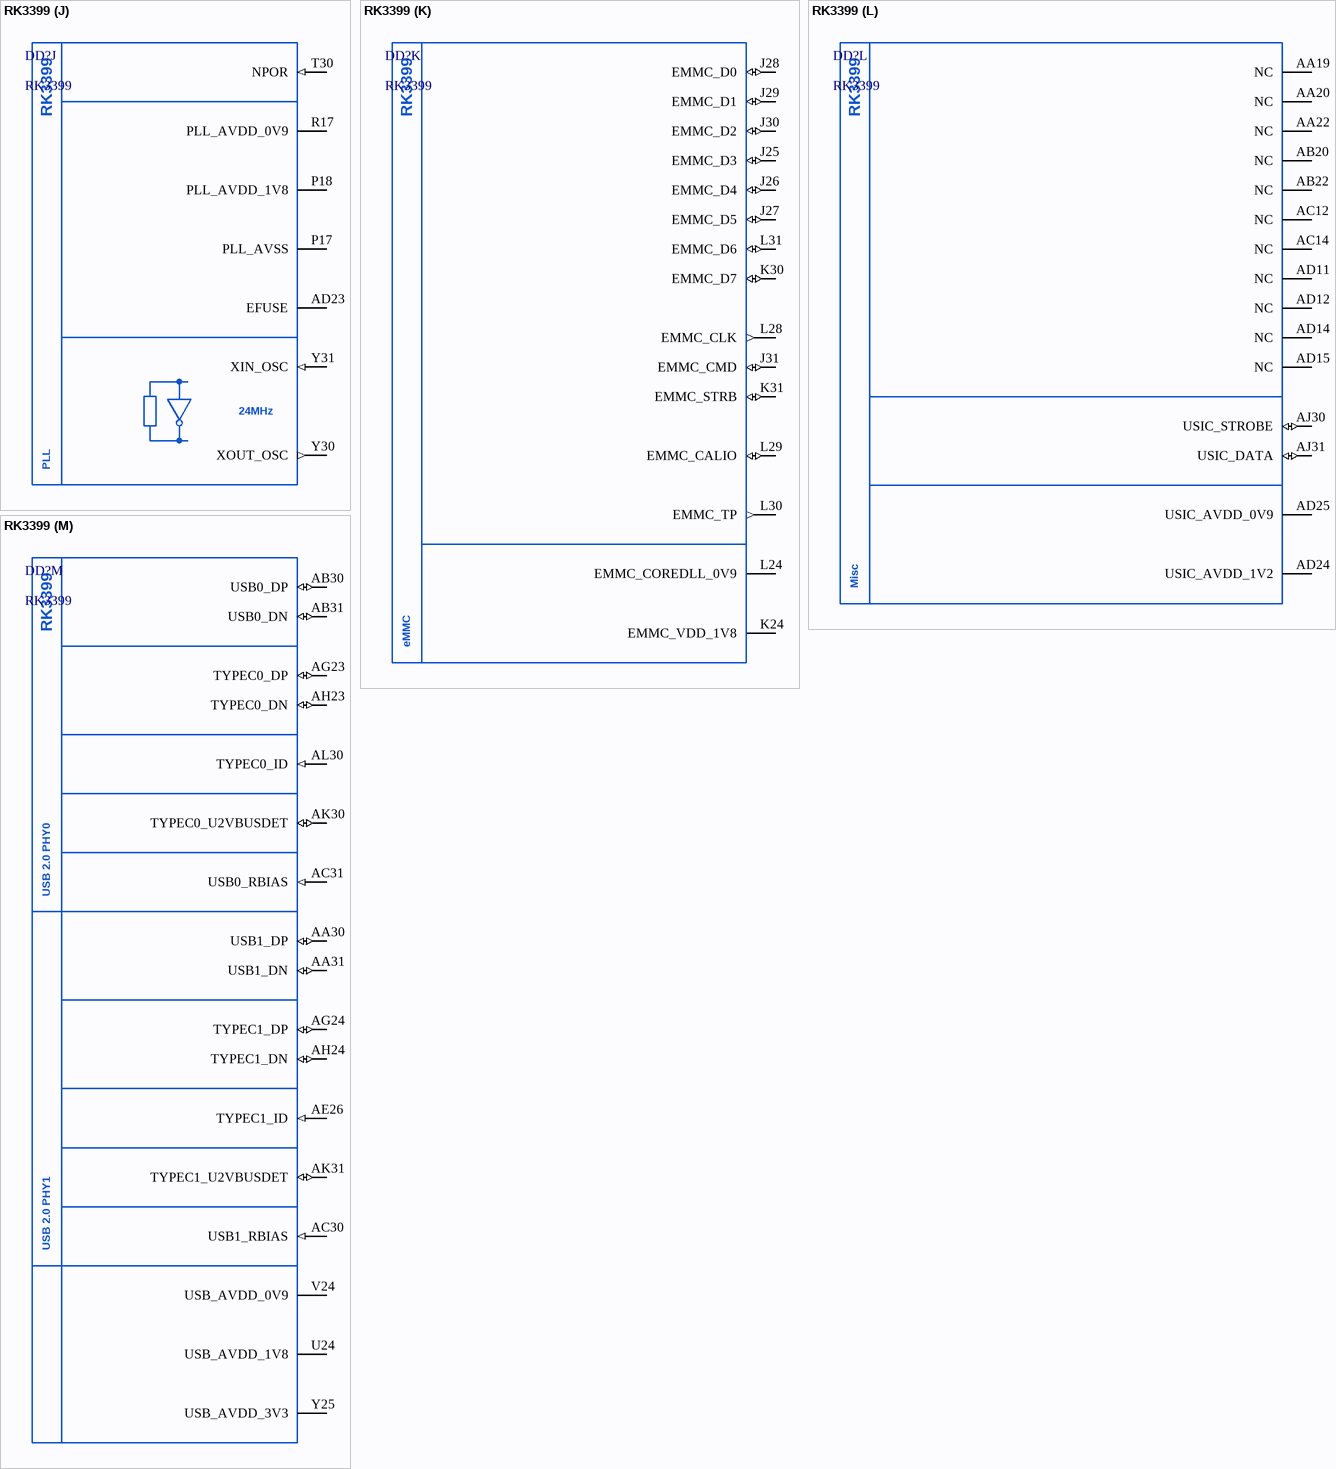
[diagram p12: symbol RK3399]

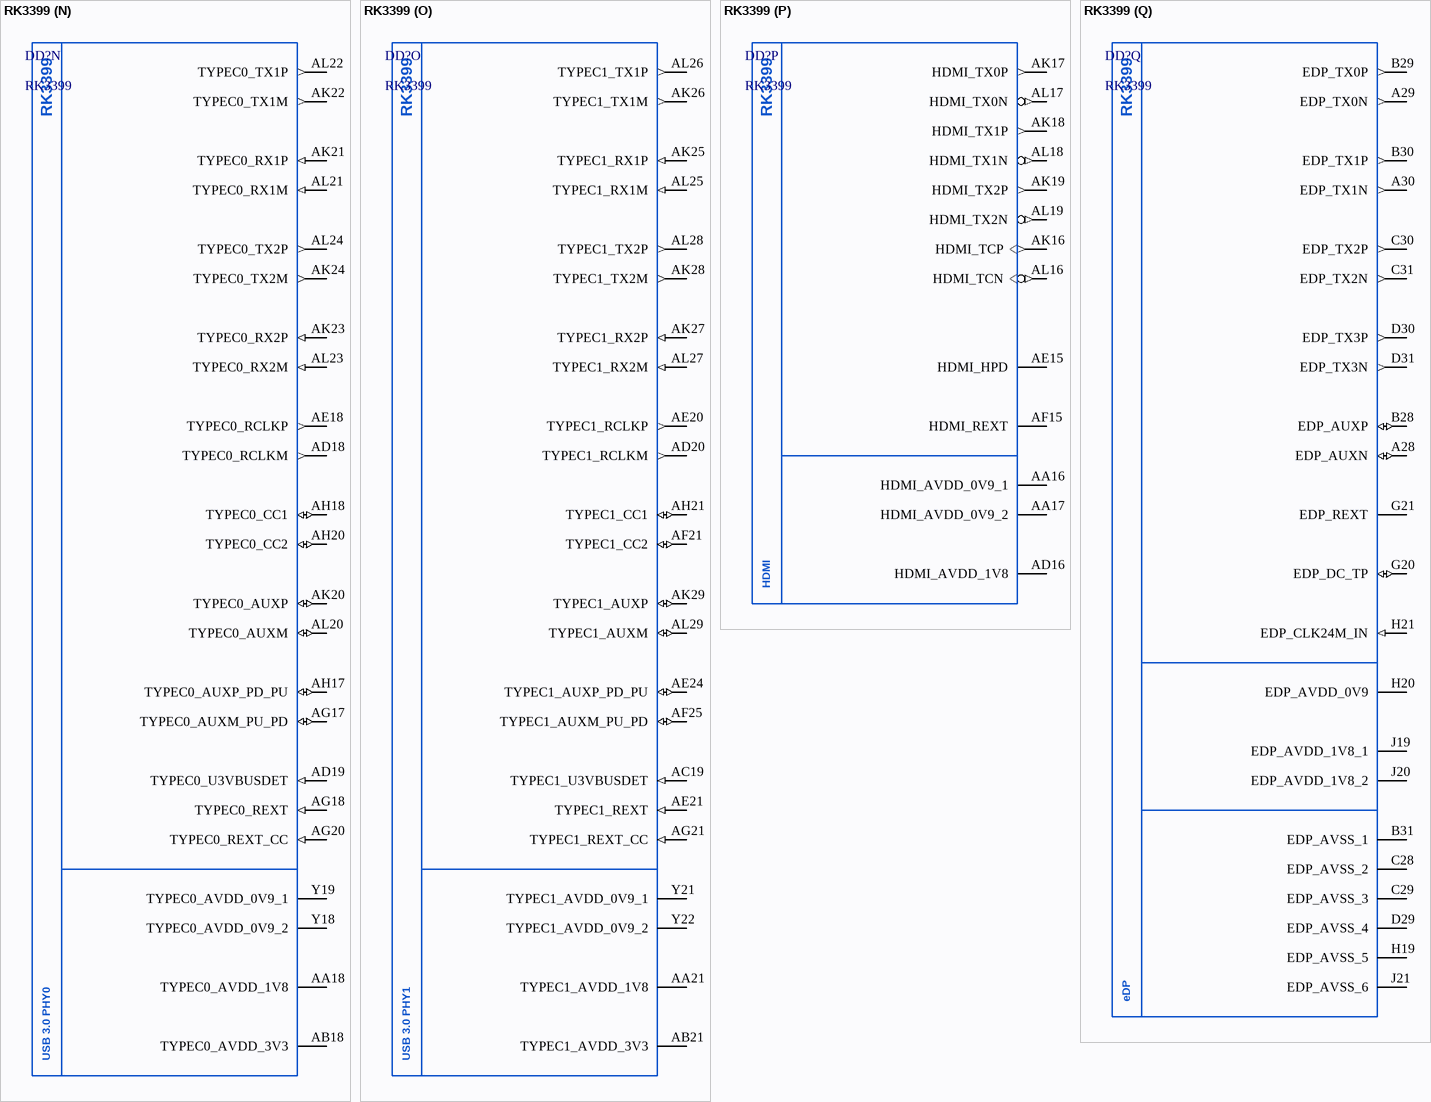
[diagram p13: symbol RK3399]

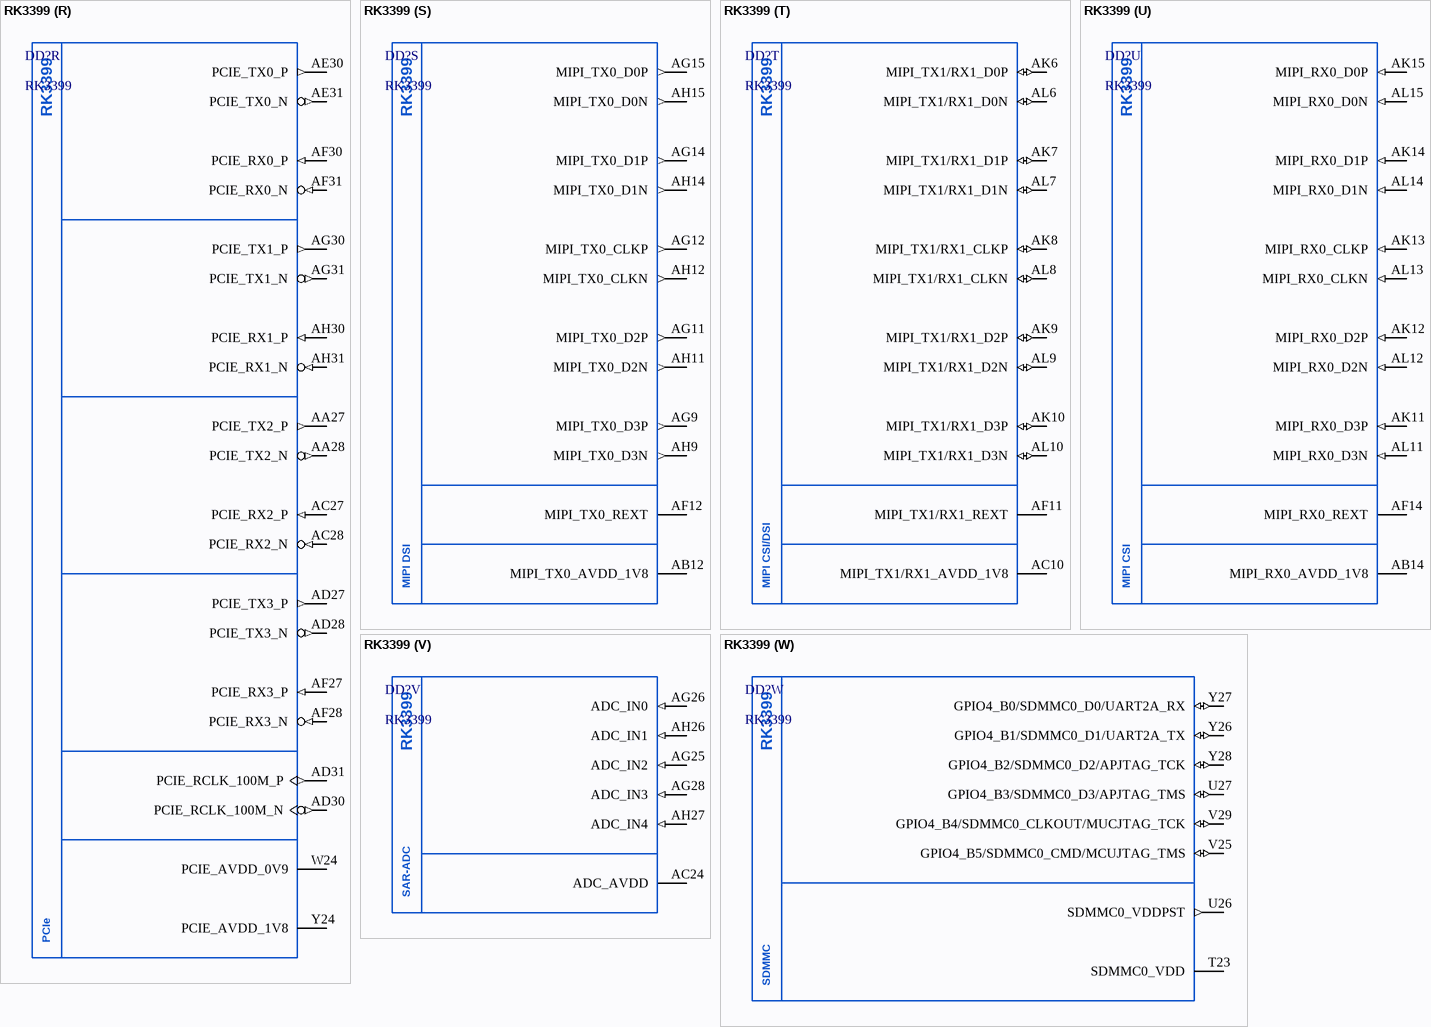
[diagram p14: symbol RK3399]

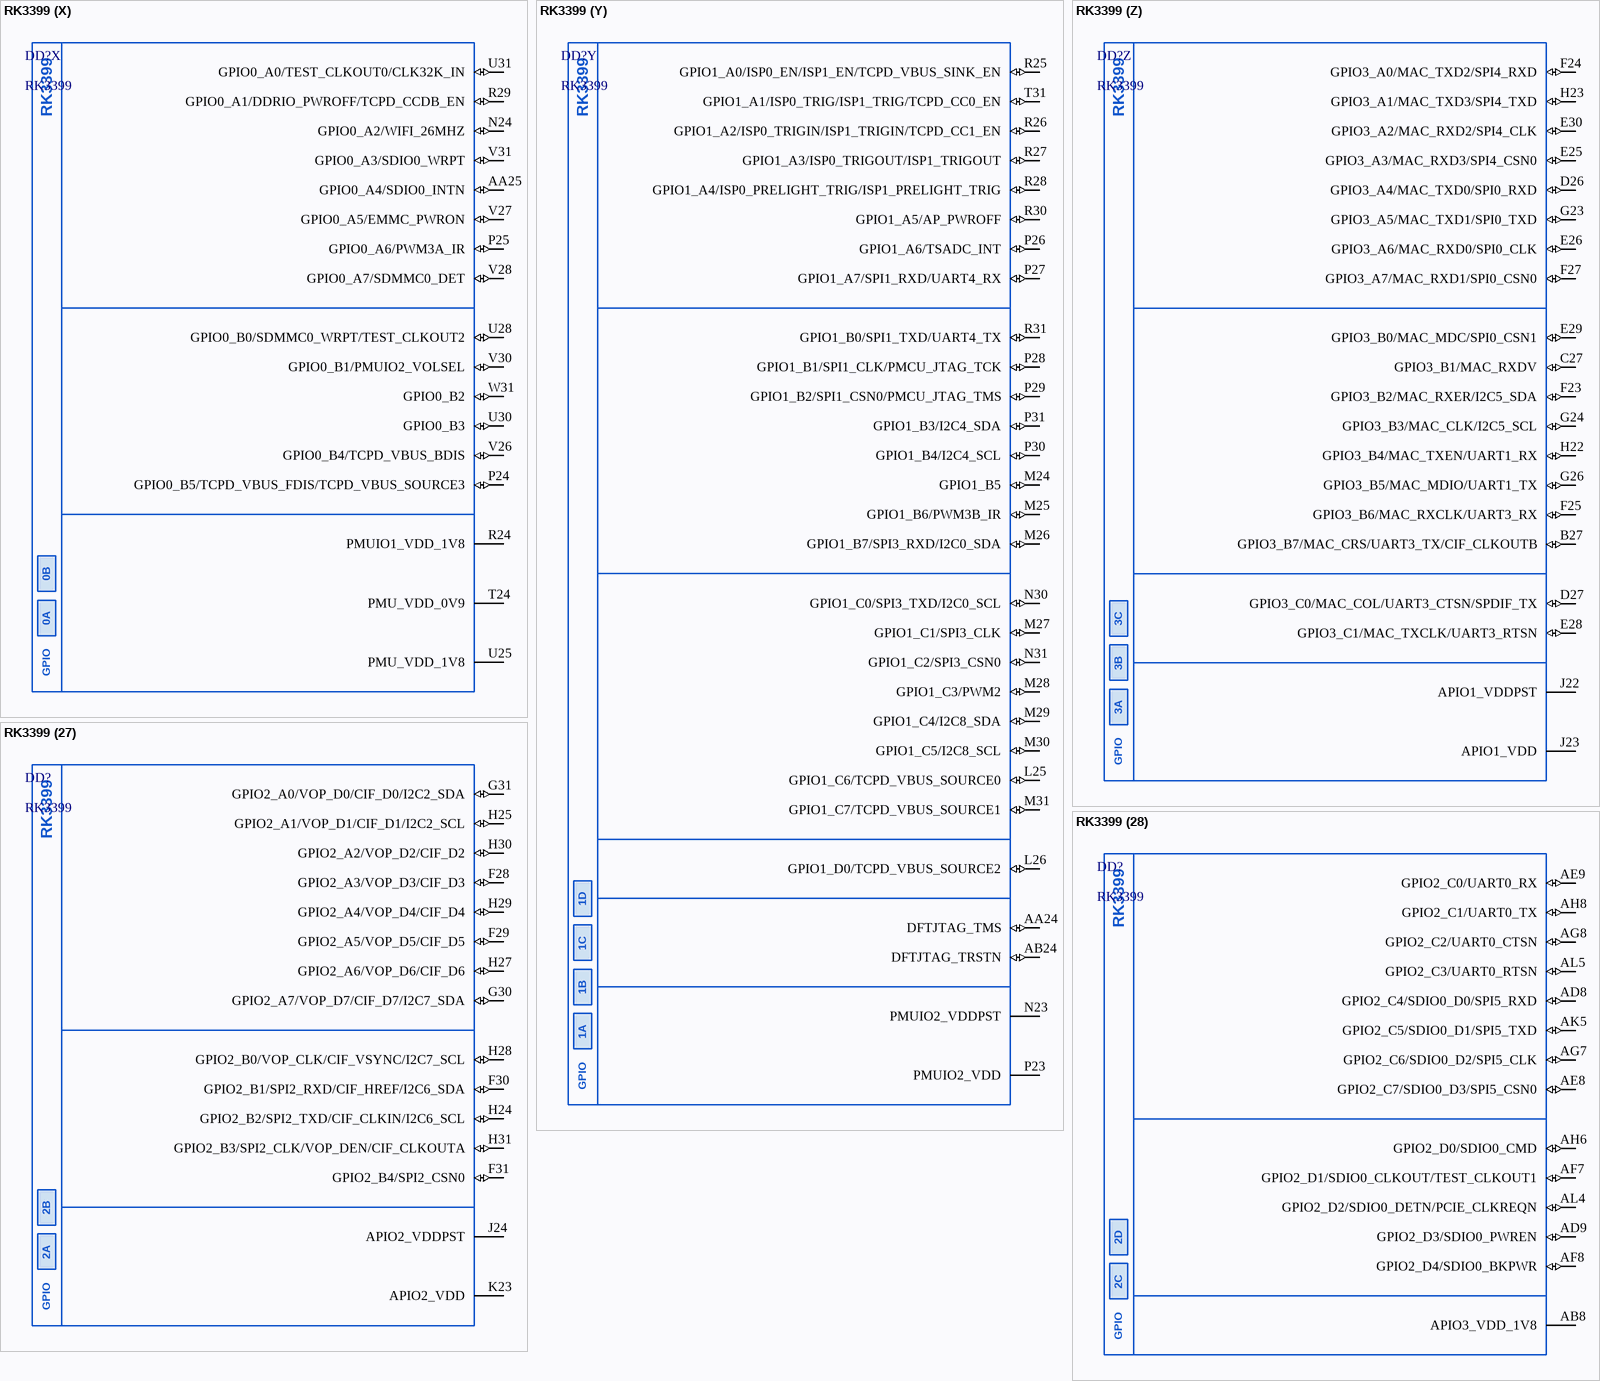
[diagram p15: symbol RK3399]

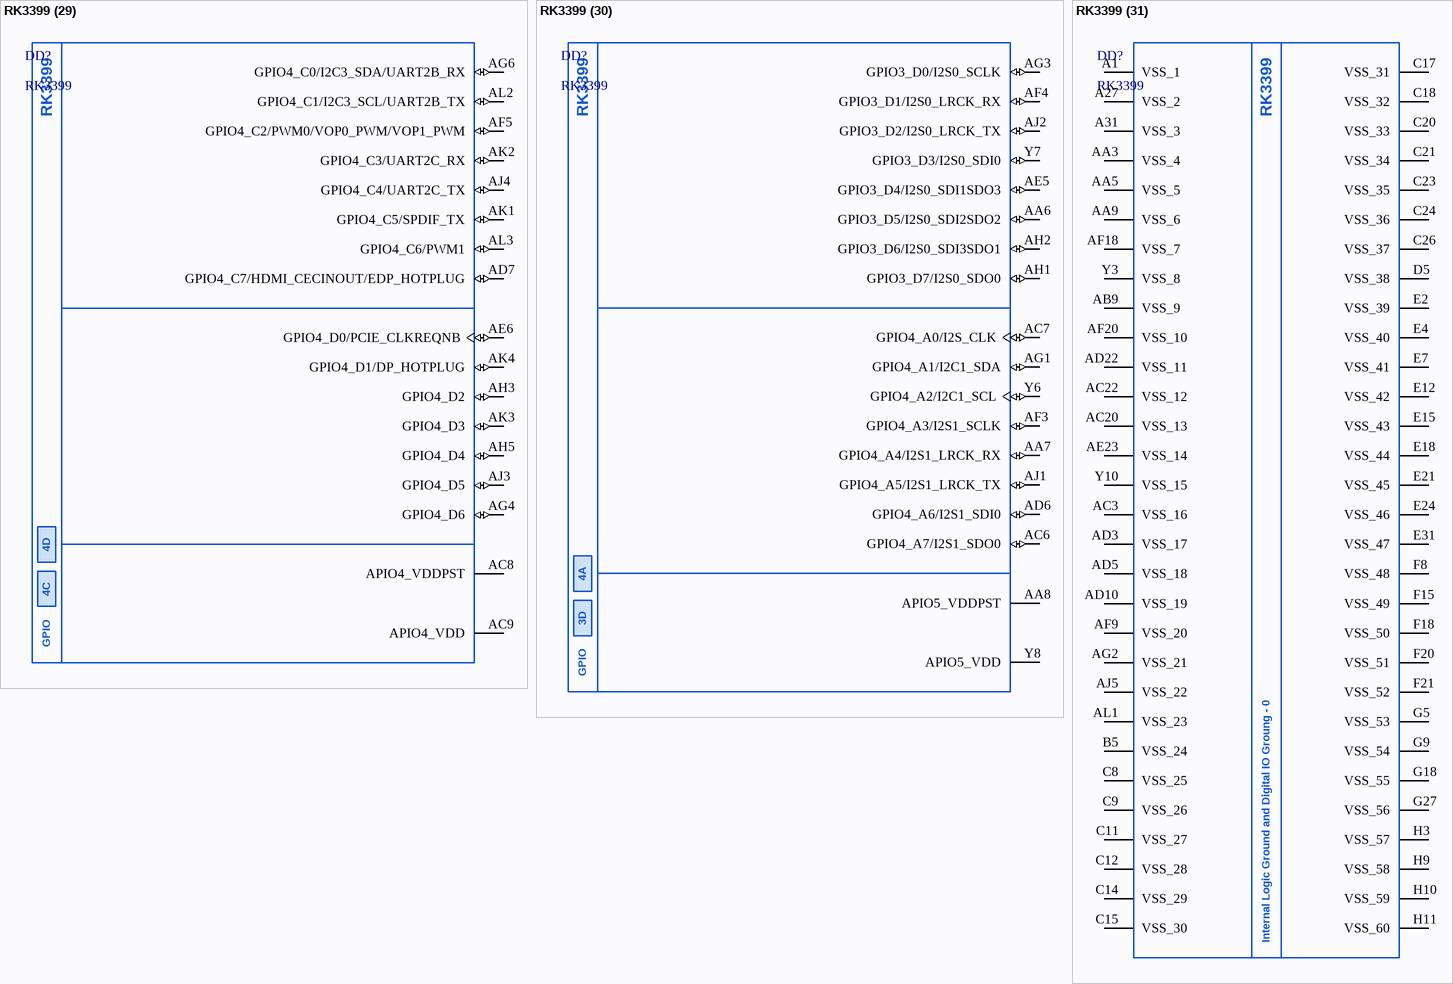
[diagram p16: symbol RK3399]

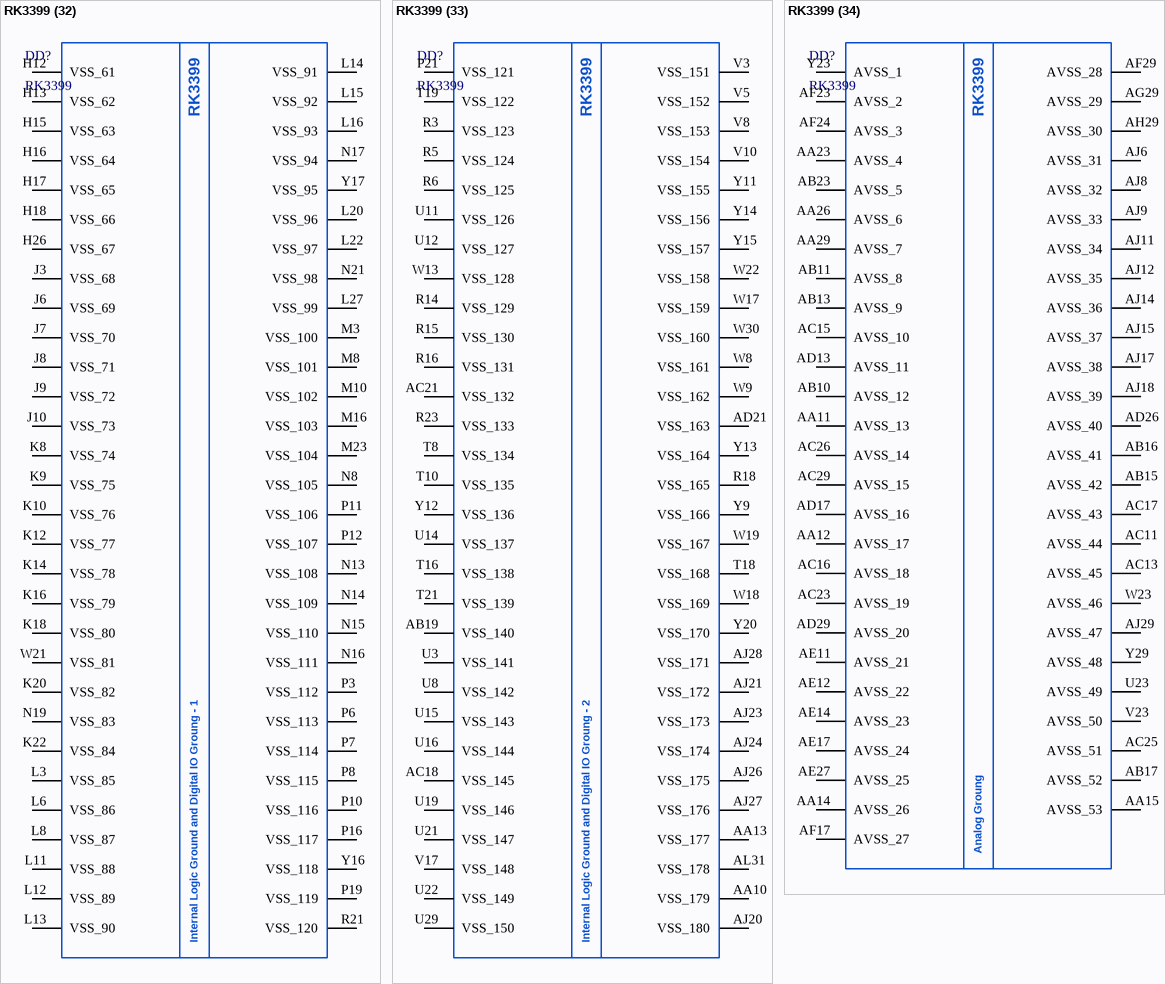
[diagram p17: symbol RK3399]